# Altium integrated library Lattice CPLD ispLSI 5000VE.IntLib: 66 symbols (part 3 of 7)
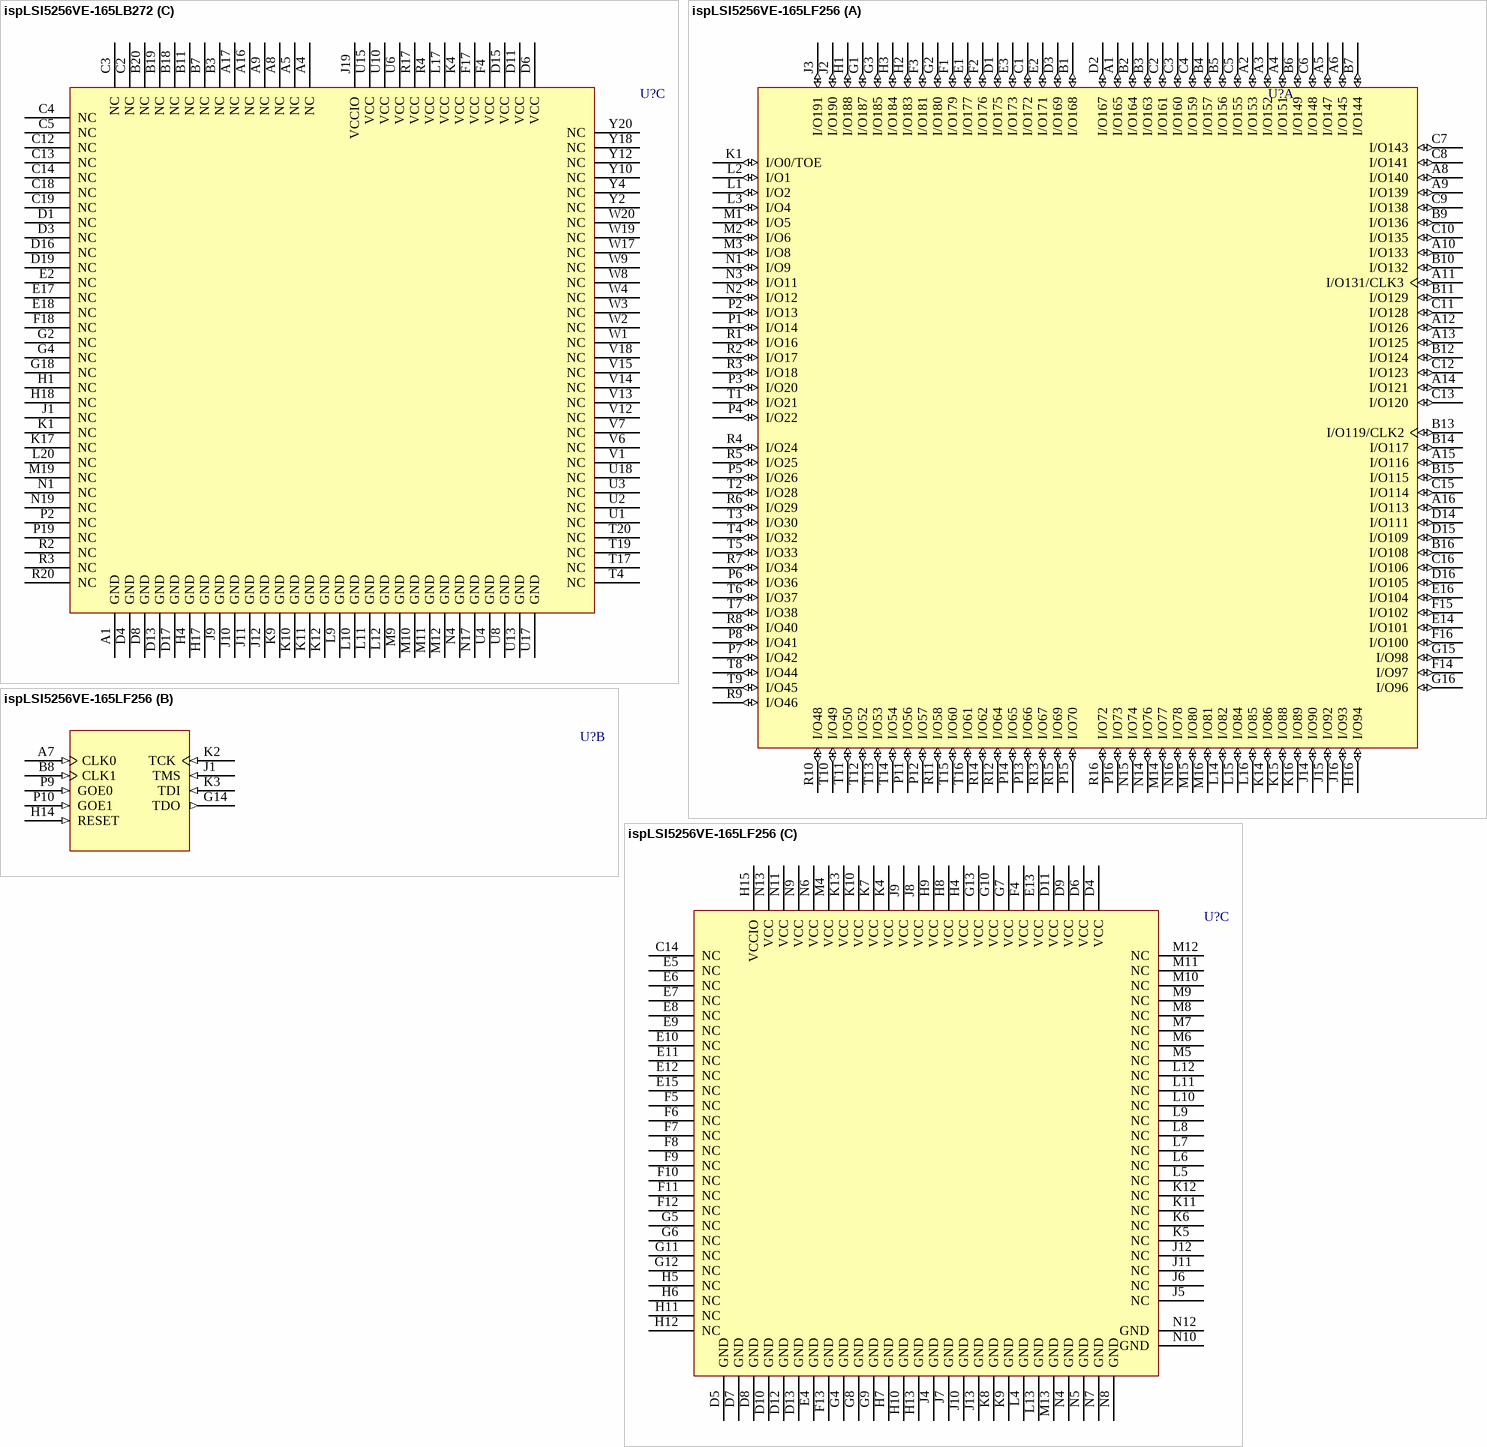
[diagram p59: symbols ispLSI5256VE-165LB272 to ispLSI5256VE-165LF256]

## ispLSI5256VE-165LB272
designator U?
ispLSI 5256VE SuperWIDE High Density PLD with 144 User I/Os, 6.0 ns, 3.3 V, Commercial Grade; Published: 17-Sep-2003; LatestRevisionDate: 13-Apr-2006; LatestRevisionNote: IPC-7351 Footprint Added.; DatasheetVersion: 5256ve_10, Jan-2002; PackageVersion: pkg_32, Aug-2005; PackageReference: BGA272; Publisher: Altium Limited; PackageDescription: 272-Ball Ball Grid Array (BGA272); ComponentLink1Description: Manufacturer Link; ComponentLink1URL: http://www.latticesemi.com/products/cpld/5000/5000VE/index.cfm; ComponentLink2Description: Datasheet; ComponentLink2URL: http://www.latticesemi.com/account/_download.cfm?AMID=815; ComponentLink3Description: Lattice Login; ComponentLink3URL: http://www.latticesemi.com/account/login.cfm
footprint BGA272 (BGA, 272-Leads, Body 27x27mm, Pitch 1.27mm)
3D model 5256VE-BGA272 (272-Ball Ball Grid Array (BGA272))
part A pins: A2 I/O164 (io), A3 I/O160 (io), A6 I/O151 (io), A7 I/O149 (io), A10 I/O140 (io), A11 I/O139 (io), A12 I/O136 (io), A13 I/O132 (io), A14 I/O129 (io), A15 I/O126 (io), A18 I/O119/CLK2 (io), A19 I/O115 (io), A20 I/O114 (io), B1 I/O165 (io), B2 I/O163 (io), B4 I/O159 (io), B5 I/O157 (io), B6 I/O153 (io), B8 I/O147 (io), B9 I/O143 (io), B10 I/O141 (io), B12 I/O135 (io), B13 I/O131/CLK3 (io), B14 I/O128 (io), B15 I/O125 (io), B16 I/O121 (io), B17 I/O116 (io), C1 I/O169 (io), C6 I/O156 (io), C7 I/O152 (io), C8 I/O148 (io), C9 I/O144 (io), C11 I/O138 (io), C15 I/O123 (io), C16 I/O120 (io), C17 I/O117 (io), C20 I/O111 (io), D2 I/O167 (io), D5 I/O161 (io), D7 I/O155 (io), D9 I/O145 (io), D12 I/O133 (io), D14 I/O124 (io), D18 I/O113 (io), D20 I/O109 (io), E1 I/O172 (io), E3 I/O171 (io), E4 I/O168 (io), E19 I/O108 (io), E20 I/O105 (io), F1 I/O176 (io), F2 I/O175 (io), F3 I/O173 (io), F19 I/O104 (io), F20 I/O102 (io), G1 I/O179 (io), G3 I/O177 (io), G17 I/O106 (io), G19 I/O101 (io), G20 I/O100 (io), H2 I/O181 (io), H3 I/O180 (io), H19 I/O98 (io), H20 I/O97 (io), J2 I/O185 (io), J3 I/O184 (io), J4 I/O183 (io), J17 I/O96 (io), K2 I/O187 (io), K3 I/O188 (io), K18 I/O94 (io), K19 I/O93 (io), K20 I/O92 (io), L1 I/O190 (io), L2 I/O191 (io), L18 I/O90 (io), L19 I/O89 (io), M2 I/O0/TOE (io), M3 I/O1 (io), M4 I/O2 (io), M17 I/O85 (io), M18 I/O86 (io), M20 I/O88 (io), N2 I/O4 (io), N3 I/O5 (io), N18 I/O82 (io), N20 I/O84 (io), P1 I/O6 (io), P3 I/O9 (io), P4 I/O12 (io), P17 I/O77 (io), P18 I/O80 (io), P20 I/O81 (io), R1 I/O8 (io), R18 I/O76 (io), R19 I/O78 (io), T1 I/O11 (io), T2 I/O13 (io), T3 I/O14 (io), T18 I/O74 (io), U5 I/O21 (io), U7 I/O28 (io), U9 I/O37 (io), U12 I/O48 (io), U14 I/O58 (io), U16 I/O64 (io), U19 I/O70 (io), U20 I/O73 (io), V2 I/O16 (io), V3 I/O17 (io), V4 I/O20 (io), V5 I/O24 (io), V8 I/O34 (io), V9 I/O38 (io), V10 I/O42 (io), V16 I/O62 (io), V17 I/O65 (io), V19 I/O69 (io), V20 I/O72 (io), W5 I/O25 (io), W6 I/O29 (io), W7 I/O32 (io), W10 I/O41 (io), W11 I/O45 (io), W12 I/O46 (io), W13 I/O50 (io), W14 I/O53 (io), W15 I/O56 (io), W16 I/O60 (io), W18 I/O66 (io), Y1 I/O18 (io), Y3 I/O22 (io), Y5 I/O26 (io), Y6 I/O30 (io), Y7 I/O33 (io), Y8 I/O36 (io), Y9 I/O40 (io), Y11 I/O44 (io), Y13 I/O49 (io), Y14 I/O52 (io), Y15 I/O54 (io), Y16 I/O57 (io), Y17 I/O61 (io), Y19 I/O67 (io)
part B pins: C10 CLK0 (in), D10 CLK1 (in), J18 RESET (in), J20 TDO (out), L3 TMS (in), L4 TCK (in), M1 TDI (in), U11 GOE1 (in), V11 GOE0 (in)
part C pins: A1 GND (power), A4 NC, A5 NC, A8 NC, A9 NC, A16 NC, A17 NC, B3 NC, B7 NC, B11 NC, B18 NC, B19 NC, B20 NC, C2 NC, C3 NC, C4 NC, C5 NC, C12 NC, C13 NC, C14 NC, C18 NC, C19 NC, D1 NC, D3 NC, D4 GND (power), D6 VCC (power), D8 GND (power), D11 VCC (power), D13 GND (power), D15 VCC (power), D16 NC, D17 GND (power), D19 NC, E2 NC, E17 NC, E18 NC, F4 VCC (power), F17 VCC (power), F18 NC, G2 NC, G4 NC, G18 NC, H1 NC, H4 GND (power), H17 GND (power), H18 NC, J1 NC, J9 GND (power), J10 GND (power), J11 GND (power), J12 GND (power), J19 VCCIO (power), K1 NC, K4 VCC (power), K9 GND (power), K10 GND (power), K11 GND (power), K12 GND (power), K17 NC, L9 GND (power), L10 GND (power), L11 GND (power), L12 GND (power), L17 VCC (power), L20 NC, M9 GND (power), M10 GND (power), M11 GND (power), M12 GND (power), M19 NC, N1 NC, N4 GND (power), N17 GND (power), N19 NC, P2 NC, P19 NC, R2 NC, R3 NC, R4 VCC (power), R17 VCC (power), R20 NC, T4 NC, T17 NC, T19 NC, T20 NC, U1 NC, U2 NC, U3 NC, U4 GND (power), U6 VCC (power), U8 GND (power), U10 VCC (power), U13 GND (power), U15 VCC (power), U17 GND (power), U18 NC, V1 NC, V6 NC, V7 NC, V12 NC, V13 NC, V14 NC, V15 NC, V18 NC, W1 NC, W2 NC, W3 NC, W4 NC, W8 NC, W9 NC, W17 NC, W19 NC, W20 NC, Y2 NC, Y4 NC, Y10 NC, Y12 NC, Y18 NC, Y20 NC

## ispLSI5256VE-165LF256
designator U?
ispLSI 5256VE SuperWIDE High Density PLD with 144 User I/Os, 6.0 ns, 3.3 V, Commercial Grade; Published: 17-Sep-2003; LatestRevisionDate: 13-Apr-2006; LatestRevisionNote: IPC-7351 Footprint Added.; DatasheetVersion: 5256ve_10, Jan-2002; PackageVersion: pkg_32, Aug-2005; PackageReference: fpBGA256; Publisher: Altium Limited; PackageDescription: 256-Ball Fine Pitch Ball Grid Array (fpBGA256); Code_IPC: BGA100P16X16-256; ComponentLink1Description: Manufacturer Link; ComponentLink1URL: http://www.latticesemi.com/products/cpld/5000/5000VE/index.cfm; ComponentLink2Description: Datasheet; ComponentLink2URL: http://www.latticesemi.com/account/_download.cfm?AMID=815; ComponentLink3Description: Lattice Login; ComponentLink3URL: http://www.latticesemi.com/account/login.cfm
footprint fpBGA256 (BGA, 256-Leads, Body 17x17mm, Pitch 1mm)
3D model 5256VE-fpBGA256 (256-Ball Fine Pitch Ball Grid Array (fpBGA256))
part A pins: A1 I/O165 (io), A2 I/O153 (io), A3 I/O152 (io), A4 I/O151 (io), A5 I/O147 (io), A6 I/O145 (io), A8 I/O140 (io), A9 I/O139 (io), A10 I/O133 (io), A11 I/O131/CLK3 (io), A12 I/O126 (io), A13 I/O125 (io), A14 I/O121 (io), A15 I/O116 (io), A16 I/O113 (io), B1 I/O168 (io), B2 I/O164 (io), B3 I/O163 (io), B4 I/O157 (io), B5 I/O156 (io), B6 I/O149 (io), B7 I/O144 (io), B9 I/O136 (io), B10 I/O132 (io), B11 I/O129 (io), B12 I/O124 (io), B13 I/O119/CLK2 (io), B14 I/O117 (io), B15 I/O115 (io), B16 I/O108 (io), C1 I/O172 (io), C2 I/O161 (io), C3 I/O160 (io), C4 I/O159 (io), C5 I/O155 (io), C6 I/O148 (io), C7 I/O143 (io), C8 I/O141 (io), C9 I/O138 (io), C10 I/O135 (io), C11 I/O128 (io), C12 I/O123 (io), C13 I/O120 (io), C15 I/O114 (io), C16 I/O106 (io), D1 I/O175 (io), D2 I/O167 (io), D3 I/O169 (io), D14 I/O111 (io), D15 I/O109 (io), D16 I/O105 (io), E1 I/O177 (io), E2 I/O171 (io), E3 I/O173 (io), E14 I/O101 (io), E16 I/O104 (io), F1 I/O179 (io), F2 I/O176 (io), F3 I/O181 (io), F14 I/O97 (io), F15 I/O102 (io), F16 I/O100 (io), G1 I/O187 (io), G2 I/O180 (io), G3 I/O185 (io), G15 I/O98 (io), G16 I/O96 (io), H1 I/O188 (io), H2 I/O183 (io), H3 I/O184 (io), H16 I/O94 (io), J2 I/O190 (io), J3 I/O191 (io), J14 I/O90 (io), J15 I/O92 (io), J16 I/O93 (io), K1 I/O0/TOE (io), K14 I/O86 (io), K15 I/O88 (io), K16 I/O89 (io), L1 I/O2 (io), L2 I/O1 (io), L3 I/O4 (io), L14 I/O82 (io), L15 I/O84 (io), L16 I/O85 (io), M1 I/O5 (io), M2 I/O6 (io), M3 I/O8 (io), M14 I/O77 (io), M15 I/O80 (io), M16 I/O81 (io), N1 I/O9 (io), N2 I/O12 (io), N3 I/O11 (io), N14 I/O76 (io), N15 I/O74 (io), N16 I/O78 (io), P1 I/O14 (io), P2 I/O13 (io), P3 I/O20 (io), P4 I/O22 (io), P5 I/O26 (io), P6 I/O36 (io), P7 I/O42 (io), P8 I/O41 (io), P11 I/O56 (io), P12 I/O57 (io), P13 I/O66 (io), P14 I/O65 (io), P15 I/O70 (io), P16 I/O73 (io), R1 I/O16 (io), R2 I/O17 (io), R3 I/O18 (io), R4 I/O24 (io), R5 I/O25 (io), R6 I/O29 (io), R7 I/O34 (io), R8 I/O40 (io), R9 I/O46 (io), R10 I/O48 (io), R11 I/O58 (io), R12 I/O64 (io), R13 I/O67 (io), R14 I/O62 (io), R15 I/O69 (io), R16 I/O72 (io), T1 I/O21 (io), T2 I/O28 (io), T3 I/O30 (io), T4 I/O32 (io), T5 I/O33 (io), T6 I/O37 (io), T7 I/O38 (io), T8 I/O44 (io), T9 I/O45 (io), T10 I/O49 (io), T11 I/O50 (io), T12 I/O52 (io), T13 I/O53 (io), T14 I/O54 (io), T15 I/O60 (io), T16 I/O61 (io)
part B pins: A7 CLK0 (in), B8 CLK1 (in), G14 TDO (out), H14 RESET (in), J1 TMS (in), K2 TCK (in), K3 TDI (in), P9 GOE0 (in), P10 GOE1 (in)
part C pins: C14 NC, D4 VCC (power), D5 GND (power), D6 VCC (power), D7 GND (power), D8 GND (power), D9 VCC (power), D10 GND (power), D11 VCC (power), D12 GND (power), D13 GND (power), E4 GND (power), E5 NC, E6 NC, E7 NC, E8 NC, E9 NC, E10 NC, E11 NC, E12 NC, E13 VCC (power), E15 NC, F4 VCC (power), F5 NC, F6 NC, F7 NC, F8 NC, F9 NC, F10 NC, F11 NC, F12 NC, F13 GND (power), G4 GND (power), G5 NC, G6 NC, G7 VCC (power), G8 GND (power), G9 GND (power), G10 VCC (power), G11 NC, G12 NC, G13 VCC (power), H4 VCC (power), H5 NC, H6 NC, H7 GND (power), H8 VCC (power), H9 VCC (power), H10 GND (power), H11 NC, H12 NC, H13 GND (power), H15 VCCIO (power), J4 GND (power), J5 NC, J6 NC, J7 GND (power), J8 VCC (power), J9 VCC (power), J10 GND (power), J11 NC, J12 NC, J13 GND (power), K4 VCC (power), K5 NC, K6 NC, K7 VCC (power), K8 GND (power), K9 GND (power), K10 VCC (power), K11 NC, K12 NC, K13 VCC (power), L4 GND (power), L5 NC, L6 NC, L7 NC, L8 NC, L9 NC, L10 NC, L11 NC, L12 NC, L13 GND (power), M4 VCC (power), M5 NC, M6 NC, M7 NC, M8 NC, M9 NC, M10 NC, M11 NC, M12 NC, M13 GND (power), N4 GND (power), N5 GND (power), N6 VCC (power), N7 GND (power), N8 GND (power), N9 VCC (power), N10 GND (power), N11 VCC (power), N12 GND (power), N13 VCC (power)

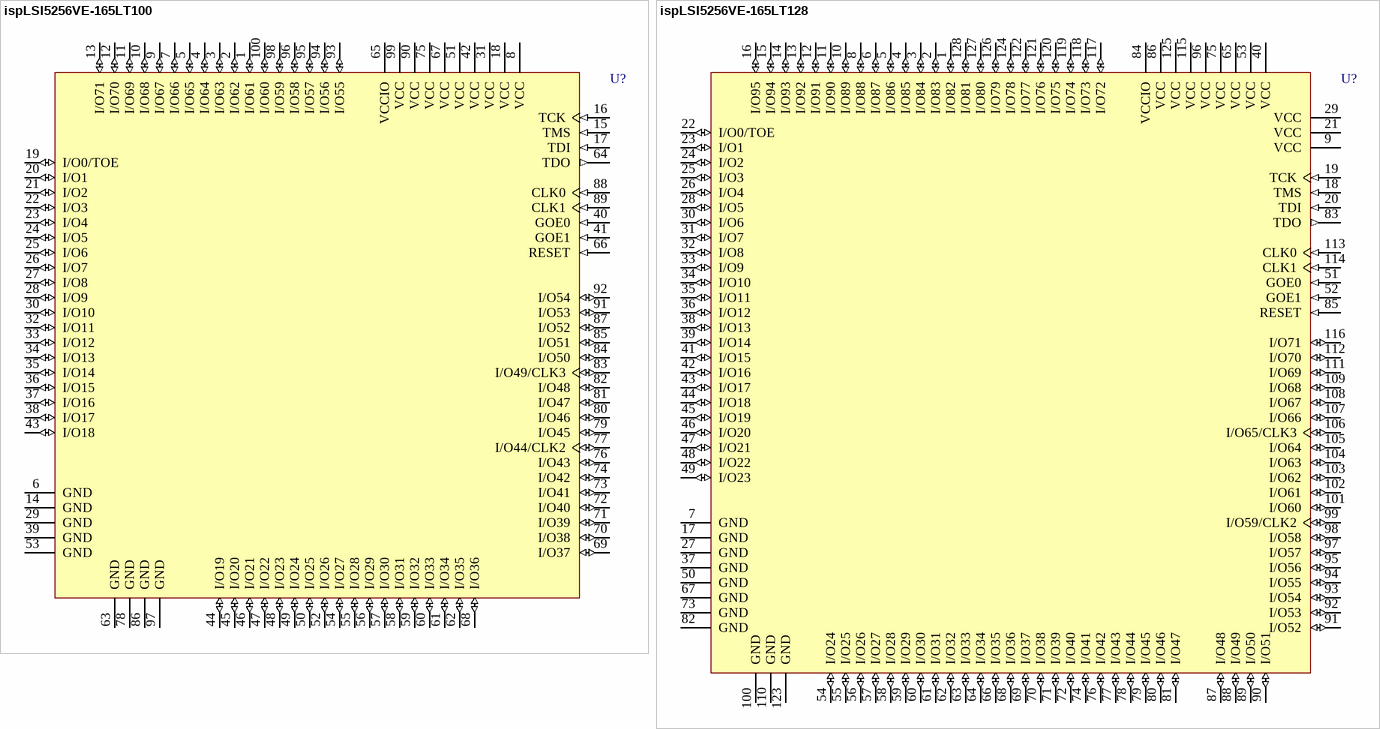
[diagram p13: symbols ispLSI5256VE-165LT100 to ispLSI5256VE-165LT128]

## ispLSI5256VE-165LT100
designator U?
ispLSI 5256VE SuperWIDE High Density PLD with 72 User I/Os, 6.0 ns, 3.3 V, Commercial Grade; Published: 17-Sep-2003; LatestRevisionDate: 13-Apr-2006; LatestRevisionNote: IPC-7351 Footprint Added.; DatasheetVersion: 5256ve_10, Jan-2002; PackageVersion: pkg_32, Aug-2005; PackageReference: TQFP100; Publisher: Altium Limited; PackageDescription: 100-Pin Thin Quad Flat Pack (TQFP100); Code_JEDEC: MS-026-BED; ComponentLink1Description: Manufacturer Link; ComponentLink1URL: http://www.latticesemi.com/products/cpld/5000/5000VE/index.cfm; ComponentLink2Description: Datasheet; ComponentLink2URL: http://www.latticesemi.com/account/_download.cfm?AMID=815; ComponentLink3Description: Lattice Login; ComponentLink3URL: http://www.latticesemi.com/account/login.cfm
footprint TQFP100_N (Thin QFP, 100-Leads, Body 14x14mm, Pitch 0.5mm, IPC Medium Density)
footprint TQFP100_L (Thin QFP, 100-Leads, Body 14x14mm, Pitch 0.5mm, IPC High Density)
footprint TQFP100_M (Thin QFP, 100-Leads, Body 14x14mm, Pitch 0.5mm, IPC Low Density)
3D model 5256VE-TQFP100 (100-Pin Thin Quad Flat Pack (TQFP100))
pins: 1 I/O61 (io), 2 I/O62 (io), 3 I/O63 (io), 4 I/O64 (io), 5 I/O65 (io), 6 GND (power), 7 I/O66 (io), 8 VCC (power), 9 I/O67 (io), 10 I/O68 (io), 11 I/O69 (io), 12 I/O70 (io), 13 I/O71 (io), 14 GND (power), 15 TMS (in), 16 TCK (in), 17 TDI (in), 18 VCC (power), 19 I/O0/TOE (io), 20 I/O1 (io), 21 I/O2 (io), 22 I/O3 (io), 23 I/O4 (io), 24 I/O5 (io), 25 I/O6 (io), 26 I/O7 (io), 27 I/O8 (io), 28 I/O9 (io), 29 GND (power), 30 I/O10 (io), 31 VCC (power), 32 I/O11 (io), 33 I/O12 (io), 34 I/O13 (io), 35 I/O14 (io), 36 I/O15 (io), 37 I/O16 (io), 38 I/O17 (io), 39 GND (power), 40 GOE0 (in), 41 GOE1 (in), 42 VCC (power), 43 I/O18 (io), 44 I/O19 (io), 45 I/O20 (io), 46 I/O21 (io), 47 I/O22 (io), 48 I/O23 (io), 49 I/O24 (io), 50 I/O25 (io), 51 VCC (power), 52 I/O26 (io), 53 GND (power), 54 I/O27 (io), 55 I/O28 (io), 56 I/O29 (io), 57 I/O30 (io), 58 I/O31 (io), 59 I/O32 (io), 60 I/O33 (io), 61 I/O34 (io), 62 I/O35 (io), 63 GND (power), 64 TDO (out), 65 VCCIO (power), 66 RESET (in), 67 VCC (power), 68 I/O36 (io), 69 I/O37 (io), 70 I/O38 (io), 71 I/O39 (io), 72 I/O40 (io), 73 I/O41 (io), 74 I/O42 (io), 75 VCC (power), 76 I/O43 (io), 77 I/O44/CLK2 (io), 78 GND (power), 79 I/O45 (io), 80 I/O46 (io), 81 I/O47 (io), 82 I/O48 (io), 83 I/O49/CLK3 (io), 84 I/O50 (io), 85 I/O51 (io), 86 GND (power), 87 I/O52 (io), 88 CLK0 (in), 89 CLK1 (in), 90 VCC (power), 91 I/O53 (io), 92 I/O54 (io), 93 I/O55 (io), 94 I/O56 (io), 95 I/O57 (io), 96 I/O58 (io), 97 GND (power), 98 I/O59 (io), 99 VCC (power), 100 I/O60 (io)

## ispLSI5256VE-165LT128
designator U?
ispLSI 5256VE SuperWIDE High Density PLD with 96 User I/Os, 6.0 ns, 3.3 V, Commercial Grade; Published: 17-Sep-2003; LatestRevisionDate: 13-Apr-2006; LatestRevisionNote: IPC-7351 Footprint Added.; DatasheetVersion: 5256ve_10, Jan-2002; PackageVersion: Aug-2005; PackageReference: TQFP128; Publisher: Altium Limited; PackageDescription: 128-Pin Thin Quad Flat Pack 0.4 mm Pitch; ComponentLink1Description: Manufacturer Link; ComponentLink1URL: http://www.latticesemi.com/products/cpld/5000/5000VE/index.cfm; ComponentLink2Description: Datasheet; ComponentLink2URL: http://www.latticesemi.com/account/_download.cfm?AMID=815; ComponentLink3Description: Lattice Login; ComponentLink3URL: http://www.latticesemi.com/account/login.cfm
footprint TQFP128_N (Thin QFP, 128-Leads, Body 14x14mm, Pitch 0.4mm, IPC Medium Density)
footprint TQFP128_L (Thin QFP, 128-Leads, Body 14x14mm, Pitch 0.4mm, IPC High Density)
footprint TQFP128_M (Thin QFP, 128-Leads, Body 14x14mm, Pitch 0.4mm, IPC Low Density)
3D model 5256VE-TQFP128 (128-Pin Thin Quad Flat Pack 0.4 mm Pitch)
pins: 1 I/O82 (io), 2 I/O83 (io), 3 I/O84 (io), 4 I/O85 (io), 5 I/O86 (io), 6 I/O87 (io), 7 GND (power), 8 I/O88 (io), 9 VCC (power), 10 I/O89 (io), 11 I/O90 (io), 12 I/O91 (io), 13 I/O92 (io), 14 I/O93 (io), 15 I/O94 (io), 16 I/O95 (io), 17 GND (power), 18 TMS (in), 19 TCK (in), 20 TDI (in), 21 VCC (power), 22 I/O0/TOE (io), 23 I/O1 (io), 24 I/O2 (io), 25 I/O3 (io), 26 I/O4 (io), 27 GND (power), 28 I/O5 (io), 29 VCC (power), 30 I/O6 (io), 31 I/O7 (io), 32 I/O8 (io), 33 I/O9 (io), 34 I/O10 (io), 35 I/O11 (io), 36 I/O12 (io), 37 GND (power), 38 I/O13 (io), 39 I/O14 (io), 40 VCC (power), 41 I/O15 (io), 42 I/O16 (io), 43 I/O17 (io), 44 I/O18 (io), 45 I/O19 (io), 46 I/O20 (io), 47 I/O21 (io), 48 I/O22 (io), 49 I/O23 (io), 50 GND (power), 51 GOE0 (in), 52 GOE1 (in), 53 VCC (power), 54 I/O24 (io), 55 I/O25 (io), 56 I/O26 (io), 57 I/O27 (io), 58 I/O28 (io), 59 I/O29 (io), 60 I/O30 (io), 61 I/O31 (io), 62 I/O32 (io), 63 I/O33 (io), 64 I/O34 (io), 65 VCC (power), 66 I/O35 (io), 67 GND (power), 68 I/O36 (io), 69 I/O37 (io), 70 I/O38 (io), 71 I/O39 (io), 72 I/O40 (io), 73 GND (power), 74 I/O41 (io), 75 VCC (power), 76 I/O42 (io), 77 I/O43 (io), 78 I/O44 (io), 79 I/O45 (io), 80 I/O46 (io), 81 I/O47 (io), 82 GND (power), 83 TDO (out), 84 VCCIO (power), 85 RESET (in), 86 VCC (power), 87 I/O48 (io), 88 I/O49 (io), 89 I/O50 (io), 90 I/O51 (io), 91 I/O52 (io), 92 I/O53 (io), 93 I/O54 (io), 94 I/O55 (io), 95 I/O56 (io), 96 VCC (power), 97 I/O57 (io), 98 I/O58 (io), 99 I/O59/CLK2 (io), 100 GND (power), 101 I/O60 (io), 102 I/O61 (io), 103 I/O62 (io), 104 I/O63 (io), 105 I/O64 (io), 106 I/O65/CLK3 (io), 107 I/O66 (io), 108 I/O67 (io), 109 I/O68 (io), 110 GND (power), 111 I/O69 (io), 112 I/O70 (io), 113 CLK0 (in), 114 CLK1 (in), 115 VCC (power), 116 I/O71 (io), 117 I/O72 (io), 118 I/O73 (io), 119 I/O74 (io), 120 I/O75 (io), 121 I/O76 (io), 122 I/O77 (io), 123 GND (power), 124 I/O78 (io), 125 VCC (power), 126 I/O79 (io), 127 I/O80 (io), 128 I/O81 (io)

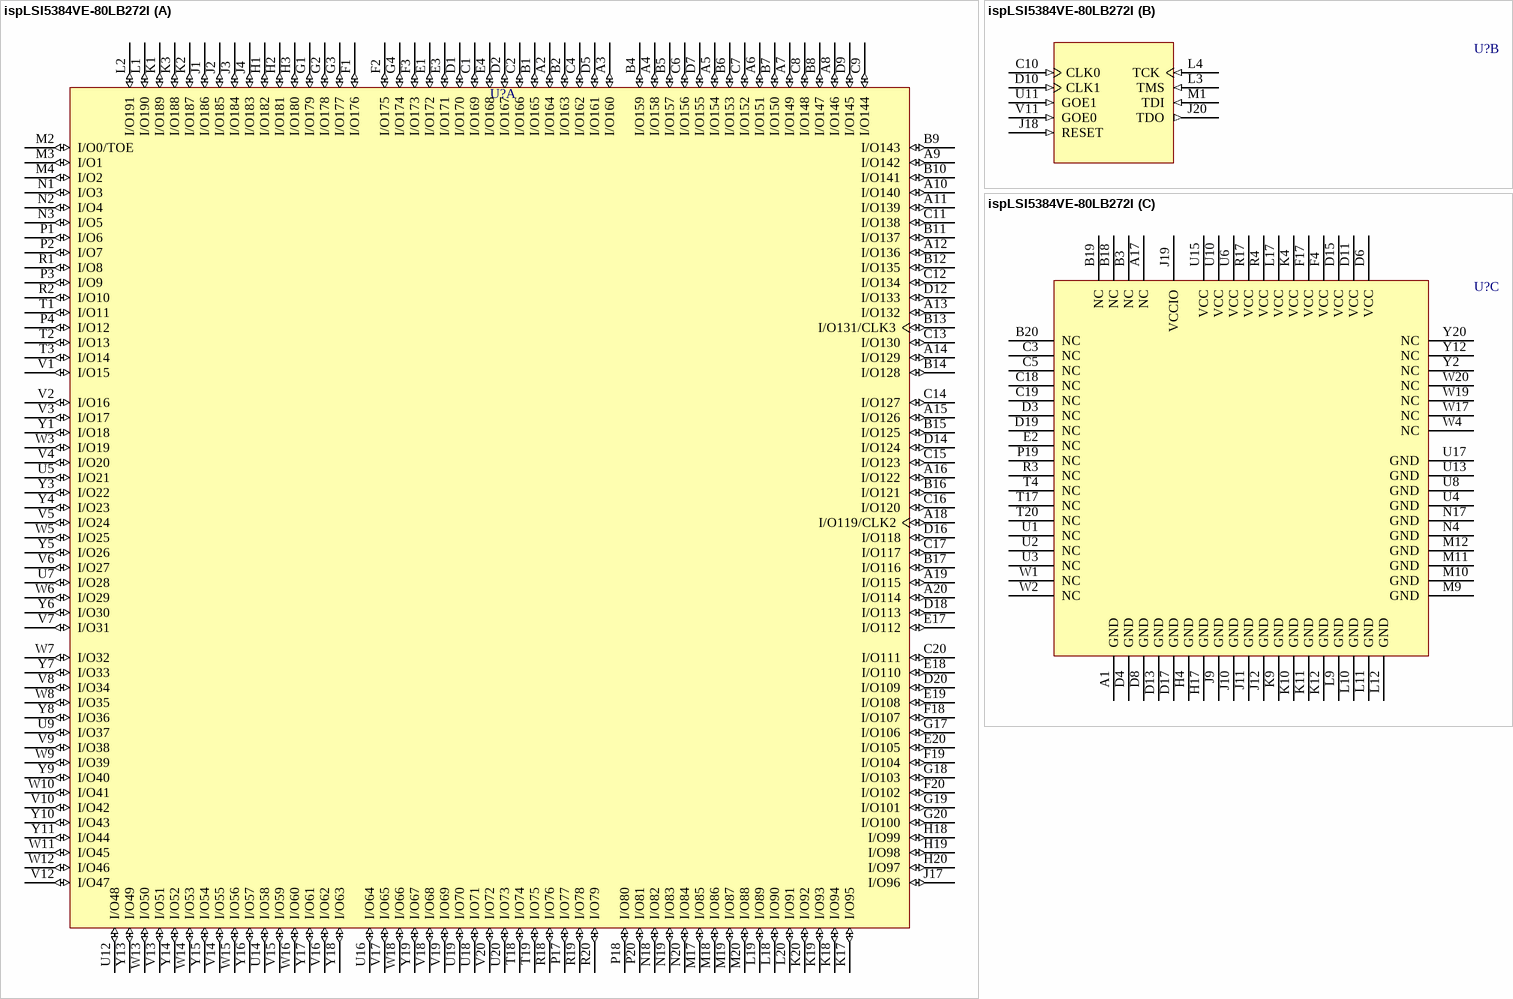
[diagram p14: symbol ispLSI5384VE-80LB272I]

## ispLSI5384VE-80LB272I
designator U?
ispLSI 5384VE SuperWIDE High Density PLD with 144 User I/Os, 12 ns, 3.3 V, Commercial Grade; Published: 17-Sep-2003; LatestRevisionDate: 13-Apr-2006; LatestRevisionNote: IPC-7351 Footprint Added.; DatasheetVersion: 5384ve_05, Jan-2002; PackageVersion: pkg_32, Aug-2005; PackageReference: BGA272; Publisher: Altium Limited; PackageDescription: 272-Ball Ball Grid Array (BGA272); ComponentLink1Description: Manufacturer Link; ComponentLink1URL: http://www.latticesemi.com/products/cpld/5000/5000VE/index.cfm; ComponentLink2Description: Datasheet; ComponentLink2URL: http://www.latticesemi.com/account/_download.cfm?AMID=816; ComponentLink3Description: Lattice Login; ComponentLink3URL: http://www.latticesemi.com/account/login.cfm
footprint BGA272 (BGA, 272-Leads, Body 27x27mm, Pitch 1.27mm)
3D model 5384VE-BGA272 (272-Ball Ball Grid Array (BGA272))
part A pins: A2 I/O164 (io), A3 I/O160 (io), A4 I/O158 (io), A5 I/O154 (io), A6 I/O151 (io), A7 I/O149 (io), A8 I/O146 (io), A9 I/O142 (io), A10 I/O140 (io), A11 I/O139 (io), A12 I/O136 (io), A13 I/O132 (io), A14 I/O129 (io), A15 I/O126 (io), A16 I/O122 (io), A18 I/O119/CLK2 (io), A19 I/O115 (io), A20 I/O114 (io), B1 I/O165 (io), B2 I/O163 (io), B4 I/O159 (io), B5 I/O157 (io), B6 I/O153 (io), B7 I/O150 (io), B8 I/O147 (io), B9 I/O143 (io), B10 I/O141 (io), B11 I/O137 (io), B12 I/O135 (io), B13 I/O131/CLK3 (io), B14 I/O128 (io), B15 I/O125 (io), B16 I/O121 (io), B17 I/O116 (io), C1 I/O169 (io), C2 I/O166 (io), C4 I/O162 (io), C6 I/O156 (io), C7 I/O152 (io), C8 I/O148 (io), C9 I/O144 (io), C11 I/O138 (io), C12 I/O134 (io), C13 I/O130 (io), C14 I/O127 (io), C15 I/O123 (io), C16 I/O120 (io), C17 I/O117 (io), C20 I/O111 (io), D1 I/O170 (io), D2 I/O167 (io), D5 I/O161 (io), D7 I/O155 (io), D9 I/O145 (io), D12 I/O133 (io), D14 I/O124 (io), D16 I/O118 (io), D18 I/O113 (io), D20 I/O109 (io), E1 I/O172 (io), E3 I/O171 (io), E4 I/O168 (io), E17 I/O112 (io), E18 I/O110 (io), E19 I/O108 (io), E20 I/O105 (io), F1 I/O176 (io), F2 I/O175 (io), F3 I/O173 (io), F18 I/O107 (io), F19 I/O104 (io), F20 I/O102 (io), G1 I/O179 (io), G2 I/O178 (io), G3 I/O177 (io), G4 I/O174 (io), G17 I/O106 (io), G18 I/O103 (io), G19 I/O101 (io), G20 I/O100 (io), H1 I/O182 (io), H2 I/O181 (io), H3 I/O180 (io), H18 I/O99 (io), H19 I/O98 (io), H20 I/O97 (io), J1 I/O186 (io), J2 I/O185 (io), J3 I/O184 (io), J4 I/O183 (io), J17 I/O96 (io), K1 I/O189 (io), K2 I/O187 (io), K3 I/O188 (io), K17 I/O95 (io), K18 I/O94 (io), K19 I/O93 (io), K20 I/O92 (io), L1 I/O190 (io), L2 I/O191 (io), L18 I/O90 (io), L19 I/O89 (io), L20 I/O91 (io), M2 I/O0/TOE (io), M3 I/O1 (io), M4 I/O2 (io), M17 I/O85 (io), M18 I/O86 (io), M19 I/O87 (io), M20 I/O88 (io), N1 I/O3 (io), N2 I/O4 (io), N3 I/O5 (io), N18 I/O82 (io), N19 I/O83 (io), N20 I/O84 (io), P1 I/O6 (io), P2 I/O7 (io), P3 I/O9 (io), P4 I/O12 (io), P17 I/O77 (io), P18 I/O80 (io), P20 I/O81 (io), R1 I/O8 (io), R2 I/O10 (io), R18 I/O76 (io), R19 I/O78 (io), R20 I/O79 (io), T1 I/O11 (io), T2 I/O13 (io), T3 I/O14 (io), T18 I/O74 (io), T19 I/O75 (io), U5 I/O21 (io), U7 I/O28 (io), U9 I/O37 (io), U12 I/O48 (io), U14 I/O58 (io), U16 I/O64 (io), U18 I/O71 (io), U19 I/O70 (io), U20 I/O73 (io), V1 I/O15 (io), V2 I/O16 (io), V3 I/O17 (io), V4 I/O20 (io), V5 I/O24 (io), V6 I/O27 (io), V7 I/O31 (io), V8 I/O34 (io), V9 I/O38 (io), V10 I/O42 (io), V12 I/O47 (io), V13 I/O51 (io), V14 I/O55 (io), V15 I/O59 (io), V16 I/O62 (io), V17 I/O65 (io), V18 I/O68 (io), V19 I/O69 (io), V20 I/O72 (io), W3 I/O19 (io), W5 I/O25 (io), W6 I/O29 (io), W7 I/O32 (io), W8 I/O35 (io), W9 I/O39 (io), W10 I/O41 (io), W11 I/O45 (io), W12 I/O46 (io), W13 I/O50 (io), W14 I/O53 (io), W15 I/O56 (io), W16 I/O60 (io), W18 I/O66 (io), Y1 I/O18 (io), Y3 I/O22 (io), Y4 I/O23 (io), Y5 I/O26 (io), Y6 I/O30 (io), Y7 I/O33 (io), Y8 I/O36 (io), Y9 I/O40 (io), Y10 I/O43 (io), Y11 I/O44 (io), Y13 I/O49 (io), Y14 I/O52 (io), Y15 I/O54 (io), Y16 I/O57 (io), Y17 I/O61 (io), Y18 I/O63 (io), Y19 I/O67 (io)
part B pins: C10 CLK0 (in), D10 CLK1 (in), J18 RESET (in), J20 TDO (out), L3 TMS (in), L4 TCK (in), M1 TDI (in), U11 GOE1 (in), V11 GOE0 (in)
part C pins: A1 GND (power), A17 NC, B3 NC, B18 NC, B19 NC, B20 NC, C3 NC, C5 NC, C18 NC, C19 NC, D3 NC, D4 GND (power), D6 VCC (power), D8 GND (power), D11 VCC (power), D13 GND (power), D15 VCC (power), D17 GND (power), D19 NC, E2 NC, F4 VCC (power), F17 VCC (power), H4 GND (power), H17 GND (power), J9 GND (power), J10 GND (power), J11 GND (power), J12 GND (power), J19 VCCIO (power), K4 VCC (power), K9 GND (power), K10 GND (power), K11 GND (power), K12 GND (power), L9 GND (power), L10 GND (power), L11 GND (power), L12 GND (power), L17 VCC (power), M9 GND (power), M10 GND (power), M11 GND (power), M12 GND (power), N4 GND (power), N17 GND (power), P19 NC, R3 NC, R4 VCC (power), R17 VCC (power), T4 NC, T17 NC, T20 NC, U1 NC, U2 NC, U3 NC, U4 GND (power), U6 VCC (power), U8 GND (power), U10 VCC (power), U13 GND (power), U15 VCC (power), U17 GND (power), W1 NC, W2 NC, W4 NC, W17 NC, W19 NC, W20 NC, Y2 NC, Y12 NC, Y20 NC

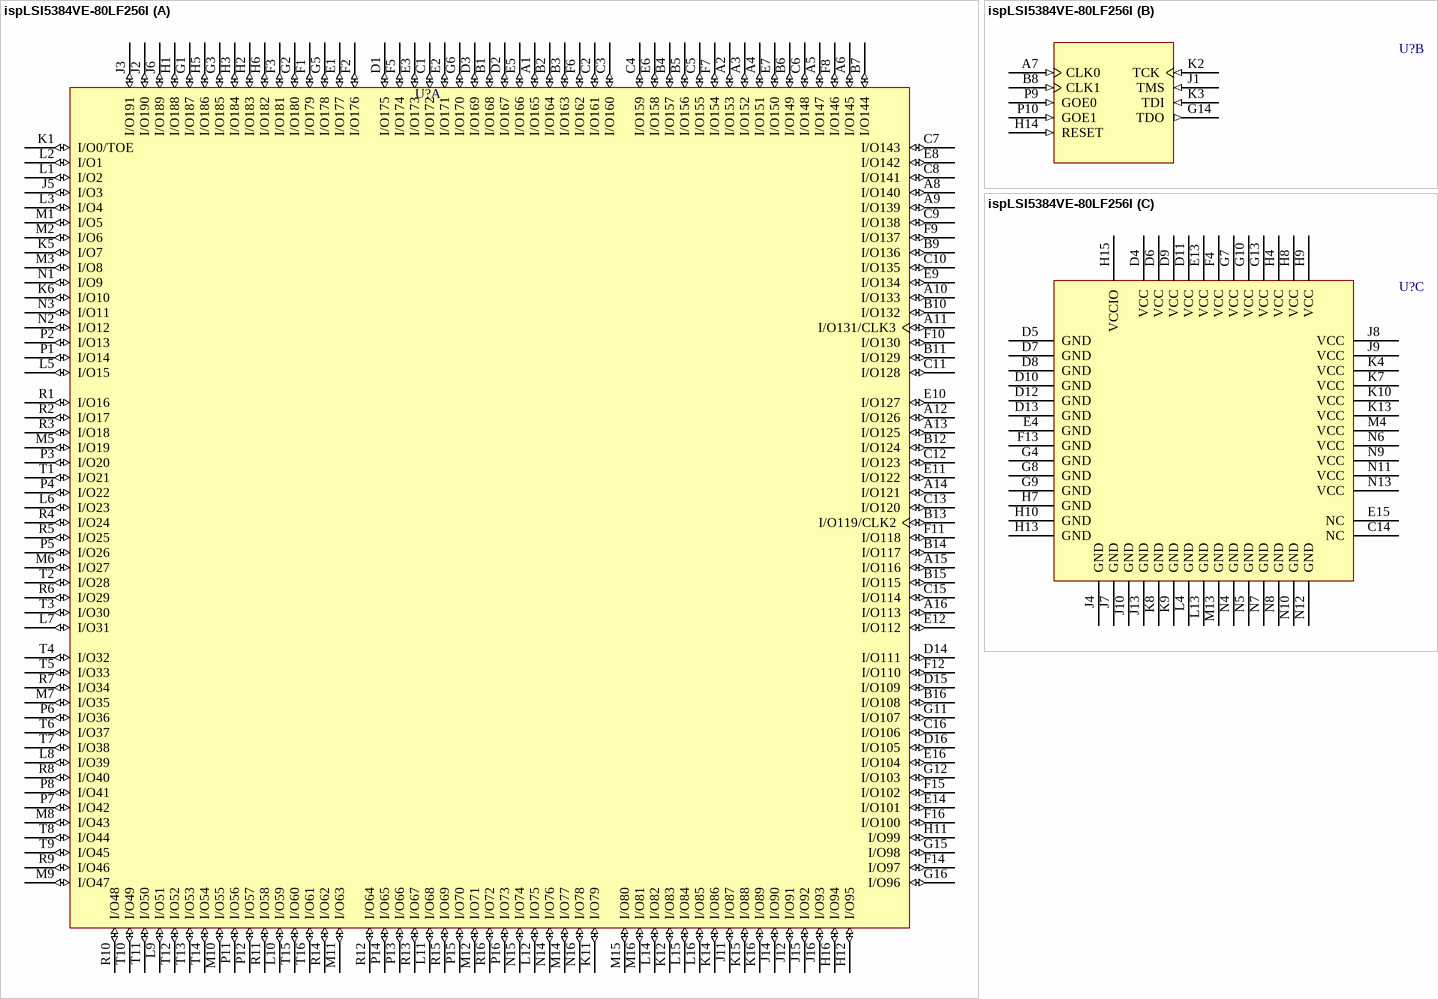
[diagram p15: symbol ispLSI5384VE-80LF256I]

## ispLSI5384VE-80LF256I
designator U?
ispLSI 5384VE SuperWIDE High Density PLD with 192 User I/Os, 12 ns, 3.3 V, Commercial Grade; Published: 17-Sep-2003; LatestRevisionDate: 13-Apr-2006; LatestRevisionNote: IPC-7351 Footprint Added.; DatasheetVersion: 5384ve_05, Jan-2002; PackageVersion: pkg_32, Aug-2005; PackageReference: fpBGA256; Publisher: Altium Limited; PackageDescription: 256-Ball Fine Pitch Ball Grid Array (fpBGA256); Code_IPC: BGA100P16X16-256; ComponentLink1Description: Manufacturer Link; ComponentLink1URL: http://www.latticesemi.com/products/cpld/5000/5000VE/index.cfm; ComponentLink2Description: Datasheet; ComponentLink2URL: http://www.latticesemi.com/account/_download.cfm?AMID=816; ComponentLink3Description: Lattice Login; ComponentLink3URL: http://www.latticesemi.com/account/login.cfm
footprint fpBGA256 (BGA, 256-Leads, Body 17x17mm, Pitch 1mm)
3D model 5384VE-fpBGA256 (256-Ball Fine Pitch Ball Grid Array (fpBGA256))
part A pins: A1 I/O165 (io), A2 I/O153 (io), A3 I/O152 (io), A4 I/O151 (io), A5 I/O147 (io), A6 I/O145 (io), A8 I/O140 (io), A9 I/O139 (io), A10 I/O133 (io), A11 I/O131/CLK3 (io), A12 I/O126 (io), A13 I/O125 (io), A14 I/O121 (io), A15 I/O116 (io), A16 I/O113 (io), B1 I/O168 (io), B2 I/O164 (io), B3 I/O163 (io), B4 I/O157 (io), B5 I/O156 (io), B6 I/O149 (io), B7 I/O144 (io), B9 I/O136 (io), B10 I/O132 (io), B11 I/O129 (io), B12 I/O124 (io), B13 I/O119/CLK2 (io), B14 I/O117 (io), B15 I/O115 (io), B16 I/O108 (io), C1 I/O172 (io), C2 I/O161 (io), C3 I/O160 (io), C4 I/O159 (io), C5 I/O155 (io), C6 I/O148 (io), C7 I/O143 (io), C8 I/O141 (io), C9 I/O138 (io), C10 I/O135 (io), C11 I/O128 (io), C12 I/O123 (io), C13 I/O120 (io), C15 I/O114 (io), C16 I/O106 (io), D1 I/O175 (io), D2 I/O167 (io), D3 I/O169 (io), D14 I/O111 (io), D15 I/O109 (io), D16 I/O105 (io), E1 I/O177 (io), E2 I/O171 (io), E3 I/O173 (io), E5 I/O166 (io), E6 I/O158 (io), E7 I/O150 (io), E8 I/O142 (io), E9 I/O134 (io), E10 I/O127 (io), E11 I/O122 (io), E12 I/O112 (io), E14 I/O101 (io), E16 I/O104 (io), F1 I/O179 (io), F2 I/O176 (io), F3 I/O181 (io), F5 I/O174 (io), F6 I/O162 (io), F7 I/O154 (io), F8 I/O146 (io), F9 I/O137 (io), F10 I/O130 (io), F11 I/O118 (io), F12 I/O110 (io), F14 I/O97 (io), F15 I/O102 (io), F16 I/O100 (io), G1 I/O187 (io), G2 I/O180 (io), G3 I/O185 (io), G5 I/O178 (io), G6 I/O170 (io), G11 I/O107 (io), G12 I/O103 (io), G15 I/O98 (io), G16 I/O96 (io), H1 I/O188 (io), H2 I/O183 (io), H3 I/O184 (io), H5 I/O186 (io), H6 I/O182 (io), H11 I/O99 (io), H12 I/O95 (io), H16 I/O94 (io), J2 I/O190 (io), J3 I/O191 (io), J5 I/O3 (io), J6 I/O189 (io), J11 I/O87 (io), J12 I/O91 (io), J14 I/O90 (io), J15 I/O92 (io), J16 I/O93 (io), K1 I/O0/TOE (io), K5 I/O7 (io), K6 I/O10 (io), K11 I/O79 (io), K12 I/O83 (io), K14 I/O86 (io), K15 I/O88 (io), K16 I/O89 (io), L1 I/O2 (io), L2 I/O1 (io), L3 I/O4 (io), L5 I/O15 (io), L6 I/O23 (io), L7 I/O31 (io), L8 I/O39 (io), L9 I/O51 (io), L10 I/O59 (io), L11 I/O68 (io), L12 I/O75 (io), L14 I/O82 (io), L15 I/O84 (io), L16 I/O85 (io), M1 I/O5 (io), M2 I/O6 (io), M3 I/O8 (io), M5 I/O19 (io), M6 I/O27 (io), M7 I/O35 (io), M8 I/O43 (io), M9 I/O47 (io), M10 I/O55 (io), M11 I/O63 (io), M12 I/O71 (io), M14 I/O77 (io), M15 I/O80 (io), M16 I/O81 (io), N1 I/O9 (io), N2 I/O12 (io), N3 I/O11 (io), N14 I/O76 (io), N15 I/O74 (io), N16 I/O78 (io), P1 I/O14 (io), P2 I/O13 (io), P3 I/O20 (io), P4 I/O22 (io), P5 I/O26 (io), P6 I/O36 (io), P7 I/O42 (io), P8 I/O41 (io), P11 I/O56 (io), P12 I/O57 (io), P13 I/O66 (io), P14 I/O65 (io), P15 I/O70 (io), P16 I/O73 (io), R1 I/O16 (io), R2 I/O17 (io), R3 I/O18 (io), R4 I/O24 (io), R5 I/O25 (io), R6 I/O29 (io), R7 I/O34 (io), R8 I/O40 (io), R9 I/O46 (io), R10 I/O48 (io), R11 I/O58 (io), R12 I/O64 (io), R13 I/O67 (io), R14 I/O62 (io), R15 I/O69 (io), R16 I/O72 (io), T1 I/O21 (io), T2 I/O28 (io), T3 I/O30 (io), T4 I/O32 (io), T5 I/O33 (io), T6 I/O37 (io), T7 I/O38 (io), T8 I/O44 (io), T9 I/O45 (io), T10 I/O49 (io), T11 I/O50 (io), T12 I/O52 (io), T13 I/O53 (io), T14 I/O54 (io), T15 I/O60 (io), T16 I/O61 (io)
part B pins: A7 CLK0 (in), B8 CLK1 (in), G14 TDO (out), H14 RESET (in), J1 TMS (in), K2 TCK (in), K3 TDI (in), P9 GOE0 (in), P10 GOE1 (in)
part C pins: C14 NC, D4 VCC (power), D5 GND (power), D6 VCC (power), D7 GND (power), D8 GND (power), D9 VCC (power), D10 GND (power), D11 VCC (power), D12 GND (power), D13 GND (power), E4 GND (power), E13 VCC (power), E15 NC, F4 VCC (power), F13 GND (power), G4 GND (power), G7 VCC (power), G8 GND (power), G9 GND (power), G10 VCC (power), G13 VCC (power), H4 VCC (power), H7 GND (power), H8 VCC (power), H9 VCC (power), H10 GND (power), H13 GND (power), H15 VCCIO (power), J4 GND (power), J7 GND (power), J8 VCC (power), J9 VCC (power), J10 GND (power), J13 GND (power), K4 VCC (power), K7 VCC (power), K8 GND (power), K9 GND (power), K10 VCC (power), K13 VCC (power), L4 GND (power), L13 GND (power), M4 VCC (power), M13 GND (power), N4 GND (power), N5 GND (power), N6 VCC (power), N7 GND (power), N8 GND (power), N9 VCC (power), N10 GND (power), N11 VCC (power), N12 GND (power), N13 VCC (power)

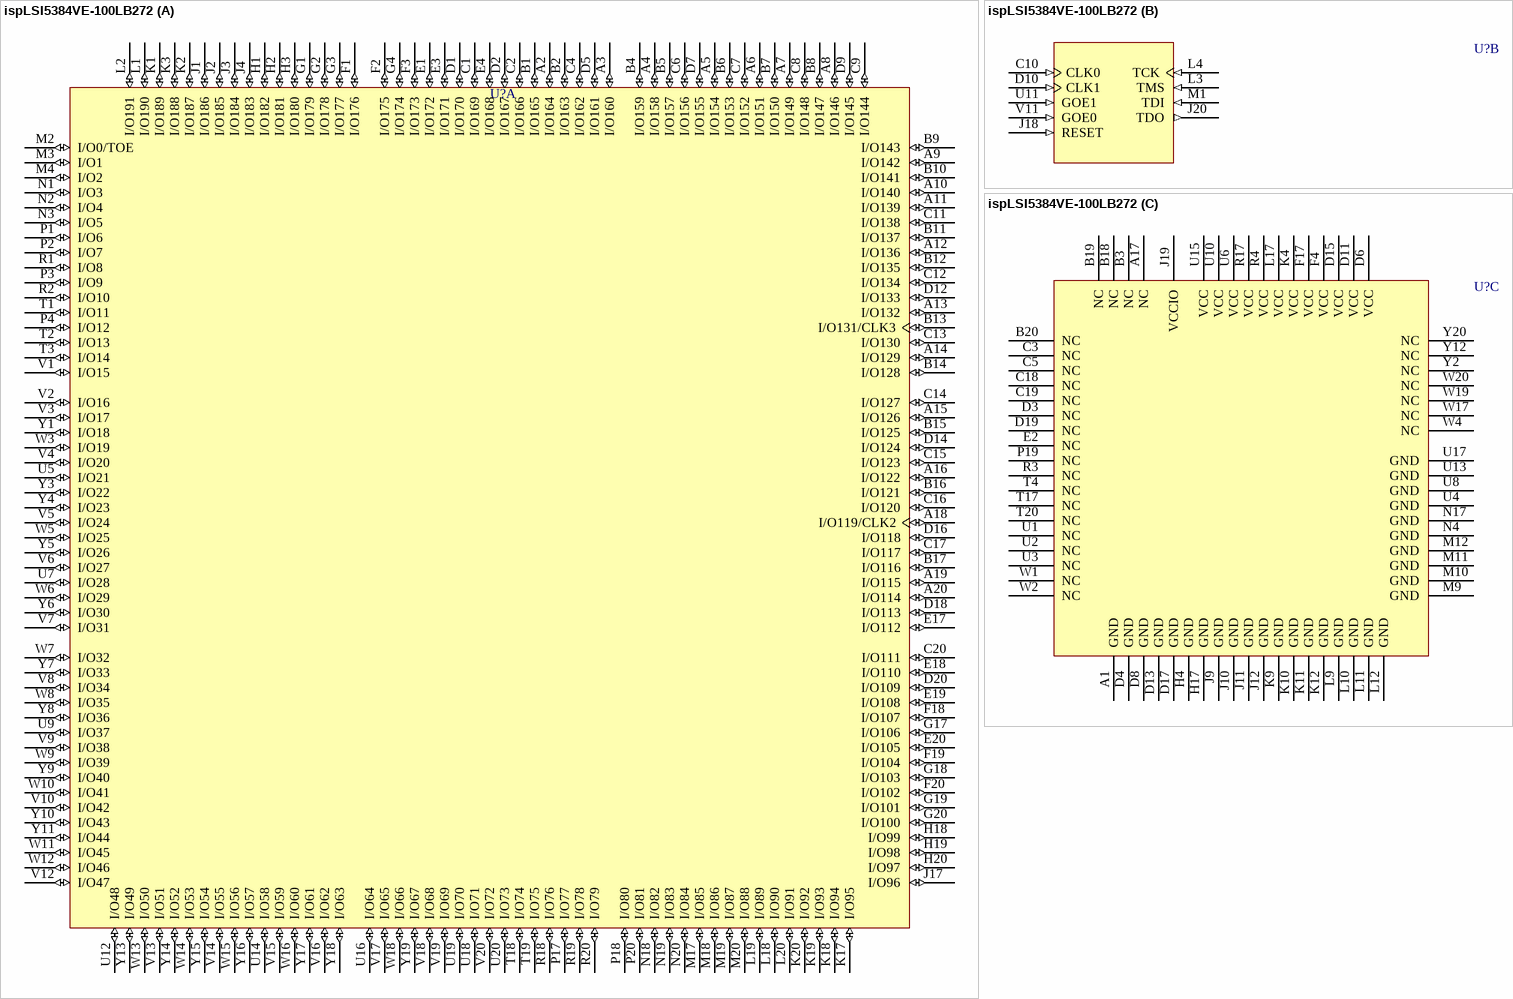
[diagram p16: symbol ispLSI5384VE-100LB272]

## ispLSI5384VE-100LB272
designator U?
ispLSI 5384VE SuperWIDE High Density PLD with 144 User I/Os, 10 ns, 3.3 V, Commercial Grade; Published: 17-Sep-2003; LatestRevisionDate: 13-Apr-2006; LatestRevisionNote: IPC-7351 Footprint Added.; DatasheetVersion: 5384ve_05, Jan-2002; PackageVersion: pkg_32, Aug-2005; PackageReference: BGA272; Publisher: Altium Limited; PackageDescription: 272-Ball Ball Grid Array (BGA272); ComponentLink1Description: Manufacturer Link; ComponentLink1URL: http://www.latticesemi.com/products/cpld/5000/5000VE/index.cfm; ComponentLink2Description: Datasheet; ComponentLink2URL: http://www.latticesemi.com/account/_download.cfm?AMID=816; ComponentLink3Description: Lattice Login; ComponentLink3URL: http://www.latticesemi.com/account/login.cfm
footprint BGA272 (BGA, 272-Leads, Body 27x27mm, Pitch 1.27mm)
3D model 5384VE-BGA272 (272-Ball Ball Grid Array (BGA272))
part A pins: A2 I/O164 (io), A3 I/O160 (io), A4 I/O158 (io), A5 I/O154 (io), A6 I/O151 (io), A7 I/O149 (io), A8 I/O146 (io), A9 I/O142 (io), A10 I/O140 (io), A11 I/O139 (io), A12 I/O136 (io), A13 I/O132 (io), A14 I/O129 (io), A15 I/O126 (io), A16 I/O122 (io), A18 I/O119/CLK2 (io), A19 I/O115 (io), A20 I/O114 (io), B1 I/O165 (io), B2 I/O163 (io), B4 I/O159 (io), B5 I/O157 (io), B6 I/O153 (io), B7 I/O150 (io), B8 I/O147 (io), B9 I/O143 (io), B10 I/O141 (io), B11 I/O137 (io), B12 I/O135 (io), B13 I/O131/CLK3 (io), B14 I/O128 (io), B15 I/O125 (io), B16 I/O121 (io), B17 I/O116 (io), C1 I/O169 (io), C2 I/O166 (io), C4 I/O162 (io), C6 I/O156 (io), C7 I/O152 (io), C8 I/O148 (io), C9 I/O144 (io), C11 I/O138 (io), C12 I/O134 (io), C13 I/O130 (io), C14 I/O127 (io), C15 I/O123 (io), C16 I/O120 (io), C17 I/O117 (io), C20 I/O111 (io), D1 I/O170 (io), D2 I/O167 (io), D5 I/O161 (io), D7 I/O155 (io), D9 I/O145 (io), D12 I/O133 (io), D14 I/O124 (io), D16 I/O118 (io), D18 I/O113 (io), D20 I/O109 (io), E1 I/O172 (io), E3 I/O171 (io), E4 I/O168 (io), E17 I/O112 (io), E18 I/O110 (io), E19 I/O108 (io), E20 I/O105 (io), F1 I/O176 (io), F2 I/O175 (io), F3 I/O173 (io), F18 I/O107 (io), F19 I/O104 (io), F20 I/O102 (io), G1 I/O179 (io), G2 I/O178 (io), G3 I/O177 (io), G4 I/O174 (io), G17 I/O106 (io), G18 I/O103 (io), G19 I/O101 (io), G20 I/O100 (io), H1 I/O182 (io), H2 I/O181 (io), H3 I/O180 (io), H18 I/O99 (io), H19 I/O98 (io), H20 I/O97 (io), J1 I/O186 (io), J2 I/O185 (io), J3 I/O184 (io), J4 I/O183 (io), J17 I/O96 (io), K1 I/O189 (io), K2 I/O187 (io), K3 I/O188 (io), K17 I/O95 (io), K18 I/O94 (io), K19 I/O93 (io), K20 I/O92 (io), L1 I/O190 (io), L2 I/O191 (io), L18 I/O90 (io), L19 I/O89 (io), L20 I/O91 (io), M2 I/O0/TOE (io), M3 I/O1 (io), M4 I/O2 (io), M17 I/O85 (io), M18 I/O86 (io), M19 I/O87 (io), M20 I/O88 (io), N1 I/O3 (io), N2 I/O4 (io), N3 I/O5 (io), N18 I/O82 (io), N19 I/O83 (io), N20 I/O84 (io), P1 I/O6 (io), P2 I/O7 (io), P3 I/O9 (io), P4 I/O12 (io), P17 I/O77 (io), P18 I/O80 (io), P20 I/O81 (io), R1 I/O8 (io), R2 I/O10 (io), R18 I/O76 (io), R19 I/O78 (io), R20 I/O79 (io), T1 I/O11 (io), T2 I/O13 (io), T3 I/O14 (io), T18 I/O74 (io), T19 I/O75 (io), U5 I/O21 (io), U7 I/O28 (io), U9 I/O37 (io), U12 I/O48 (io), U14 I/O58 (io), U16 I/O64 (io), U18 I/O71 (io), U19 I/O70 (io), U20 I/O73 (io), V1 I/O15 (io), V2 I/O16 (io), V3 I/O17 (io), V4 I/O20 (io), V5 I/O24 (io), V6 I/O27 (io), V7 I/O31 (io), V8 I/O34 (io), V9 I/O38 (io), V10 I/O42 (io), V12 I/O47 (io), V13 I/O51 (io), V14 I/O55 (io), V15 I/O59 (io), V16 I/O62 (io), V17 I/O65 (io), V18 I/O68 (io), V19 I/O69 (io), V20 I/O72 (io), W3 I/O19 (io), W5 I/O25 (io), W6 I/O29 (io), W7 I/O32 (io), W8 I/O35 (io), W9 I/O39 (io), W10 I/O41 (io), W11 I/O45 (io), W12 I/O46 (io), W13 I/O50 (io), W14 I/O53 (io), W15 I/O56 (io), W16 I/O60 (io), W18 I/O66 (io), Y1 I/O18 (io), Y3 I/O22 (io), Y4 I/O23 (io), Y5 I/O26 (io), Y6 I/O30 (io), Y7 I/O33 (io), Y8 I/O36 (io), Y9 I/O40 (io), Y10 I/O43 (io), Y11 I/O44 (io), Y13 I/O49 (io), Y14 I/O52 (io), Y15 I/O54 (io), Y16 I/O57 (io), Y17 I/O61 (io), Y18 I/O63 (io), Y19 I/O67 (io)
part B pins: C10 CLK0 (in), D10 CLK1 (in), J18 RESET (in), J20 TDO (out), L3 TMS (in), L4 TCK (in), M1 TDI (in), U11 GOE1 (in), V11 GOE0 (in)
part C pins: A1 GND (power), A17 NC, B3 NC, B18 NC, B19 NC, B20 NC, C3 NC, C5 NC, C18 NC, C19 NC, D3 NC, D4 GND (power), D6 VCC (power), D8 GND (power), D11 VCC (power), D13 GND (power), D15 VCC (power), D17 GND (power), D19 NC, E2 NC, F4 VCC (power), F17 VCC (power), H4 GND (power), H17 GND (power), J9 GND (power), J10 GND (power), J11 GND (power), J12 GND (power), J19 VCCIO (power), K4 VCC (power), K9 GND (power), K10 GND (power), K11 GND (power), K12 GND (power), L9 GND (power), L10 GND (power), L11 GND (power), L12 GND (power), L17 VCC (power), M9 GND (power), M10 GND (power), M11 GND (power), M12 GND (power), N4 GND (power), N17 GND (power), P19 NC, R3 NC, R4 VCC (power), R17 VCC (power), T4 NC, T17 NC, T20 NC, U1 NC, U2 NC, U3 NC, U4 GND (power), U6 VCC (power), U8 GND (power), U10 VCC (power), U13 GND (power), U15 VCC (power), U17 GND (power), W1 NC, W2 NC, W4 NC, W17 NC, W19 NC, W20 NC, Y2 NC, Y12 NC, Y20 NC

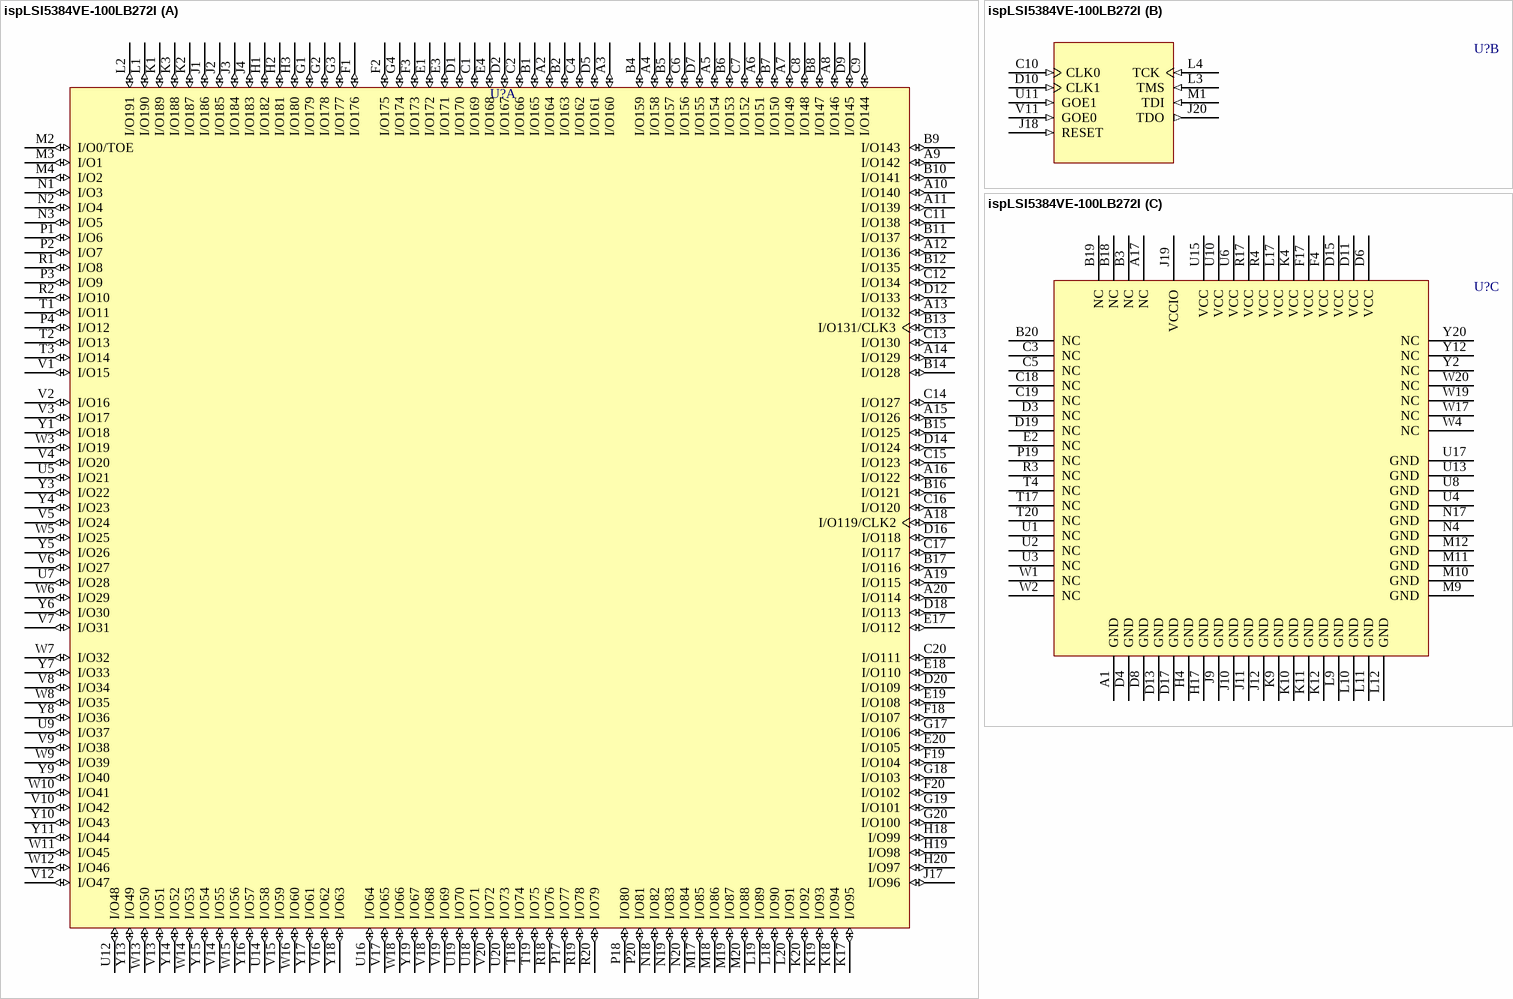
[diagram p17: symbol ispLSI5384VE-100LB272I]

## ispLSI5384VE-100LB272I
designator U?
ispLSI 5384VE SuperWIDE High Density PLD with 144 User I/Os, 10 ns, 3.3 V, Industrial Grade; Published: 17-Sep-2003; LatestRevisionDate: 13-Apr-2006; LatestRevisionNote: IPC-7351 Footprint Added.; DatasheetVersion: 5384ve_05, Jan-2002; PackageVersion: pkg_32, Aug-2005; PackageReference: BGA272; Publisher: Altium Limited; PackageDescription: 272-Ball Ball Grid Array (BGA272); ComponentLink1Description: Manufacturer Link; ComponentLink1URL: http://www.latticesemi.com/products/cpld/5000/5000VE/index.cfm; ComponentLink2Description: Datasheet; ComponentLink2URL: http://www.latticesemi.com/account/_download.cfm?AMID=816; ComponentLink3Description: Lattice Login; ComponentLink3URL: http://www.latticesemi.com/account/login.cfm
footprint BGA272 (BGA, 272-Leads, Body 27x27mm, Pitch 1.27mm)
3D model 5384VE-BGA272 (272-Ball Ball Grid Array (BGA272))
part A pins: A2 I/O164 (io), A3 I/O160 (io), A4 I/O158 (io), A5 I/O154 (io), A6 I/O151 (io), A7 I/O149 (io), A8 I/O146 (io), A9 I/O142 (io), A10 I/O140 (io), A11 I/O139 (io), A12 I/O136 (io), A13 I/O132 (io), A14 I/O129 (io), A15 I/O126 (io), A16 I/O122 (io), A18 I/O119/CLK2 (io), A19 I/O115 (io), A20 I/O114 (io), B1 I/O165 (io), B2 I/O163 (io), B4 I/O159 (io), B5 I/O157 (io), B6 I/O153 (io), B7 I/O150 (io), B8 I/O147 (io), B9 I/O143 (io), B10 I/O141 (io), B11 I/O137 (io), B12 I/O135 (io), B13 I/O131/CLK3 (io), B14 I/O128 (io), B15 I/O125 (io), B16 I/O121 (io), B17 I/O116 (io), C1 I/O169 (io), C2 I/O166 (io), C4 I/O162 (io), C6 I/O156 (io), C7 I/O152 (io), C8 I/O148 (io), C9 I/O144 (io), C11 I/O138 (io), C12 I/O134 (io), C13 I/O130 (io), C14 I/O127 (io), C15 I/O123 (io), C16 I/O120 (io), C17 I/O117 (io), C20 I/O111 (io), D1 I/O170 (io), D2 I/O167 (io), D5 I/O161 (io), D7 I/O155 (io), D9 I/O145 (io), D12 I/O133 (io), D14 I/O124 (io), D16 I/O118 (io), D18 I/O113 (io), D20 I/O109 (io), E1 I/O172 (io), E3 I/O171 (io), E4 I/O168 (io), E17 I/O112 (io), E18 I/O110 (io), E19 I/O108 (io), E20 I/O105 (io), F1 I/O176 (io), F2 I/O175 (io), F3 I/O173 (io), F18 I/O107 (io), F19 I/O104 (io), F20 I/O102 (io), G1 I/O179 (io), G2 I/O178 (io), G3 I/O177 (io), G4 I/O174 (io), G17 I/O106 (io), G18 I/O103 (io), G19 I/O101 (io), G20 I/O100 (io), H1 I/O182 (io), H2 I/O181 (io), H3 I/O180 (io), H18 I/O99 (io), H19 I/O98 (io), H20 I/O97 (io), J1 I/O186 (io), J2 I/O185 (io), J3 I/O184 (io), J4 I/O183 (io), J17 I/O96 (io), K1 I/O189 (io), K2 I/O187 (io), K3 I/O188 (io), K17 I/O95 (io), K18 I/O94 (io), K19 I/O93 (io), K20 I/O92 (io), L1 I/O190 (io), L2 I/O191 (io), L18 I/O90 (io), L19 I/O89 (io), L20 I/O91 (io), M2 I/O0/TOE (io), M3 I/O1 (io), M4 I/O2 (io), M17 I/O85 (io), M18 I/O86 (io), M19 I/O87 (io), M20 I/O88 (io), N1 I/O3 (io), N2 I/O4 (io), N3 I/O5 (io), N18 I/O82 (io), N19 I/O83 (io), N20 I/O84 (io), P1 I/O6 (io), P2 I/O7 (io), P3 I/O9 (io), P4 I/O12 (io), P17 I/O77 (io), P18 I/O80 (io), P20 I/O81 (io), R1 I/O8 (io), R2 I/O10 (io), R18 I/O76 (io), R19 I/O78 (io), R20 I/O79 (io), T1 I/O11 (io), T2 I/O13 (io), T3 I/O14 (io), T18 I/O74 (io), T19 I/O75 (io), U5 I/O21 (io), U7 I/O28 (io), U9 I/O37 (io), U12 I/O48 (io), U14 I/O58 (io), U16 I/O64 (io), U18 I/O71 (io), U19 I/O70 (io), U20 I/O73 (io), V1 I/O15 (io), V2 I/O16 (io), V3 I/O17 (io), V4 I/O20 (io), V5 I/O24 (io), V6 I/O27 (io), V7 I/O31 (io), V8 I/O34 (io), V9 I/O38 (io), V10 I/O42 (io), V12 I/O47 (io), V13 I/O51 (io), V14 I/O55 (io), V15 I/O59 (io), V16 I/O62 (io), V17 I/O65 (io), V18 I/O68 (io), V19 I/O69 (io), V20 I/O72 (io), W3 I/O19 (io), W5 I/O25 (io), W6 I/O29 (io), W7 I/O32 (io), W8 I/O35 (io), W9 I/O39 (io), W10 I/O41 (io), W11 I/O45 (io), W12 I/O46 (io), W13 I/O50 (io), W14 I/O53 (io), W15 I/O56 (io), W16 I/O60 (io), W18 I/O66 (io), Y1 I/O18 (io), Y3 I/O22 (io), Y4 I/O23 (io), Y5 I/O26 (io), Y6 I/O30 (io), Y7 I/O33 (io), Y8 I/O36 (io), Y9 I/O40 (io), Y10 I/O43 (io), Y11 I/O44 (io), Y13 I/O49 (io), Y14 I/O52 (io), Y15 I/O54 (io), Y16 I/O57 (io), Y17 I/O61 (io), Y18 I/O63 (io), Y19 I/O67 (io)
part B pins: C10 CLK0 (in), D10 CLK1 (in), J18 RESET (in), J20 TDO (out), L3 TMS (in), L4 TCK (in), M1 TDI (in), U11 GOE1 (in), V11 GOE0 (in)
part C pins: A1 GND (power), A17 NC, B3 NC, B18 NC, B19 NC, B20 NC, C3 NC, C5 NC, C18 NC, C19 NC, D3 NC, D4 GND (power), D6 VCC (power), D8 GND (power), D11 VCC (power), D13 GND (power), D15 VCC (power), D17 GND (power), D19 NC, E2 NC, F4 VCC (power), F17 VCC (power), H4 GND (power), H17 GND (power), J9 GND (power), J10 GND (power), J11 GND (power), J12 GND (power), J19 VCCIO (power), K4 VCC (power), K9 GND (power), K10 GND (power), K11 GND (power), K12 GND (power), L9 GND (power), L10 GND (power), L11 GND (power), L12 GND (power), L17 VCC (power), M9 GND (power), M10 GND (power), M11 GND (power), M12 GND (power), N4 GND (power), N17 GND (power), P19 NC, R3 NC, R4 VCC (power), R17 VCC (power), T4 NC, T17 NC, T20 NC, U1 NC, U2 NC, U3 NC, U4 GND (power), U6 VCC (power), U8 GND (power), U10 VCC (power), U13 GND (power), U15 VCC (power), U17 GND (power), W1 NC, W2 NC, W4 NC, W17 NC, W19 NC, W20 NC, Y2 NC, Y12 NC, Y20 NC

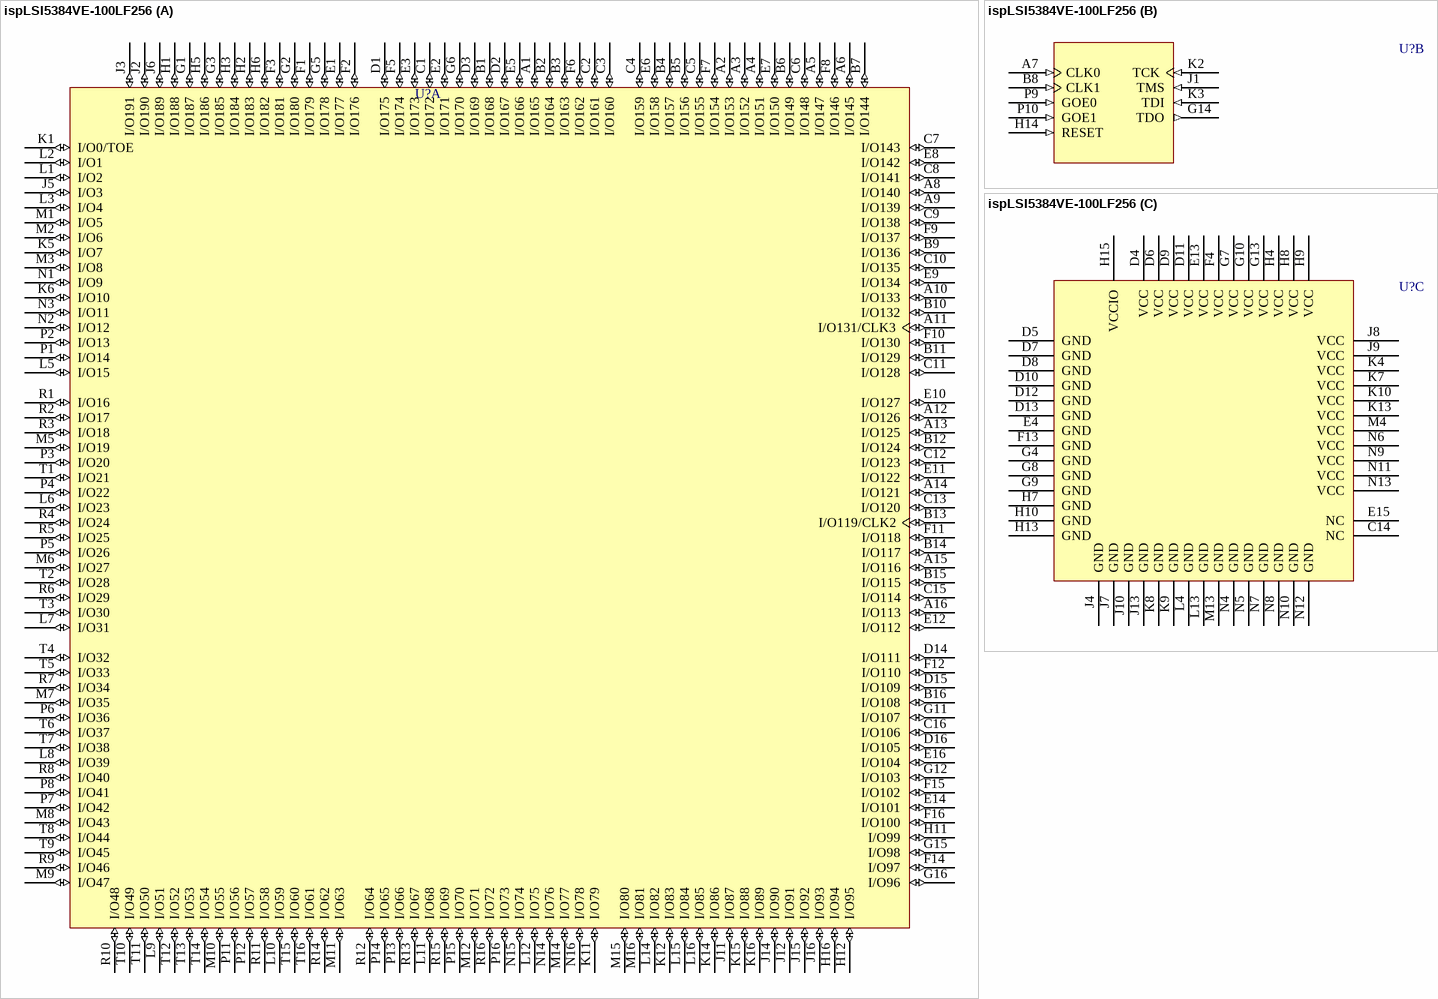
[diagram p18: symbol ispLSI5384VE-100LF256]

## ispLSI5384VE-100LF256
designator U?
ispLSI 5384VE SuperWIDE High Density PLD with 192 User I/Os, 10 ns, 3.3 V, Commercial Grade; Published: 17-Sep-2003; LatestRevisionDate: 13-Apr-2006; LatestRevisionNote: IPC-7351 Footprint Added.; DatasheetVersion: 5384ve_05, Jan-2002; PackageVersion: pkg_32, Aug-2005; PackageReference: fpBGA256; Publisher: Altium Limited; PackageDescription: 256-Ball Fine Pitch Ball Grid Array (fpBGA256); Code_IPC: BGA100P16X16-256; ComponentLink1Description: Manufacturer Link; ComponentLink1URL: http://www.latticesemi.com/products/cpld/5000/5000VE/index.cfm; ComponentLink2Description: Datasheet; ComponentLink2URL: http://www.latticesemi.com/account/_download.cfm?AMID=816; ComponentLink3Description: Lattice Login; ComponentLink3URL: http://www.latticesemi.com/account/login.cfm
footprint fpBGA256 (BGA, 256-Leads, Body 17x17mm, Pitch 1mm)
3D model 5384VE-fpBGA256 (256-Ball Fine Pitch Ball Grid Array (fpBGA256))
part A pins: A1 I/O165 (io), A2 I/O153 (io), A3 I/O152 (io), A4 I/O151 (io), A5 I/O147 (io), A6 I/O145 (io), A8 I/O140 (io), A9 I/O139 (io), A10 I/O133 (io), A11 I/O131/CLK3 (io), A12 I/O126 (io), A13 I/O125 (io), A14 I/O121 (io), A15 I/O116 (io), A16 I/O113 (io), B1 I/O168 (io), B2 I/O164 (io), B3 I/O163 (io), B4 I/O157 (io), B5 I/O156 (io), B6 I/O149 (io), B7 I/O144 (io), B9 I/O136 (io), B10 I/O132 (io), B11 I/O129 (io), B12 I/O124 (io), B13 I/O119/CLK2 (io), B14 I/O117 (io), B15 I/O115 (io), B16 I/O108 (io), C1 I/O172 (io), C2 I/O161 (io), C3 I/O160 (io), C4 I/O159 (io), C5 I/O155 (io), C6 I/O148 (io), C7 I/O143 (io), C8 I/O141 (io), C9 I/O138 (io), C10 I/O135 (io), C11 I/O128 (io), C12 I/O123 (io), C13 I/O120 (io), C15 I/O114 (io), C16 I/O106 (io), D1 I/O175 (io), D2 I/O167 (io), D3 I/O169 (io), D14 I/O111 (io), D15 I/O109 (io), D16 I/O105 (io), E1 I/O177 (io), E2 I/O171 (io), E3 I/O173 (io), E5 I/O166 (io), E6 I/O158 (io), E7 I/O150 (io), E8 I/O142 (io), E9 I/O134 (io), E10 I/O127 (io), E11 I/O122 (io), E12 I/O112 (io), E14 I/O101 (io), E16 I/O104 (io), F1 I/O179 (io), F2 I/O176 (io), F3 I/O181 (io), F5 I/O174 (io), F6 I/O162 (io), F7 I/O154 (io), F8 I/O146 (io), F9 I/O137 (io), F10 I/O130 (io), F11 I/O118 (io), F12 I/O110 (io), F14 I/O97 (io), F15 I/O102 (io), F16 I/O100 (io), G1 I/O187 (io), G2 I/O180 (io), G3 I/O185 (io), G5 I/O178 (io), G6 I/O170 (io), G11 I/O107 (io), G12 I/O103 (io), G15 I/O98 (io), G16 I/O96 (io), H1 I/O188 (io), H2 I/O183 (io), H3 I/O184 (io), H5 I/O186 (io), H6 I/O182 (io), H11 I/O99 (io), H12 I/O95 (io), H16 I/O94 (io), J2 I/O190 (io), J3 I/O191 (io), J5 I/O3 (io), J6 I/O189 (io), J11 I/O87 (io), J12 I/O91 (io), J14 I/O90 (io), J15 I/O92 (io), J16 I/O93 (io), K1 I/O0/TOE (io), K5 I/O7 (io), K6 I/O10 (io), K11 I/O79 (io), K12 I/O83 (io), K14 I/O86 (io), K15 I/O88 (io), K16 I/O89 (io), L1 I/O2 (io), L2 I/O1 (io), L3 I/O4 (io), L5 I/O15 (io), L6 I/O23 (io), L7 I/O31 (io), L8 I/O39 (io), L9 I/O51 (io), L10 I/O59 (io), L11 I/O68 (io), L12 I/O75 (io), L14 I/O82 (io), L15 I/O84 (io), L16 I/O85 (io), M1 I/O5 (io), M2 I/O6 (io), M3 I/O8 (io), M5 I/O19 (io), M6 I/O27 (io), M7 I/O35 (io), M8 I/O43 (io), M9 I/O47 (io), M10 I/O55 (io), M11 I/O63 (io), M12 I/O71 (io), M14 I/O77 (io), M15 I/O80 (io), M16 I/O81 (io), N1 I/O9 (io), N2 I/O12 (io), N3 I/O11 (io), N14 I/O76 (io), N15 I/O74 (io), N16 I/O78 (io), P1 I/O14 (io), P2 I/O13 (io), P3 I/O20 (io), P4 I/O22 (io), P5 I/O26 (io), P6 I/O36 (io), P7 I/O42 (io), P8 I/O41 (io), P11 I/O56 (io), P12 I/O57 (io), P13 I/O66 (io), P14 I/O65 (io), P15 I/O70 (io), P16 I/O73 (io), R1 I/O16 (io), R2 I/O17 (io), R3 I/O18 (io), R4 I/O24 (io), R5 I/O25 (io), R6 I/O29 (io), R7 I/O34 (io), R8 I/O40 (io), R9 I/O46 (io), R10 I/O48 (io), R11 I/O58 (io), R12 I/O64 (io), R13 I/O67 (io), R14 I/O62 (io), R15 I/O69 (io), R16 I/O72 (io), T1 I/O21 (io), T2 I/O28 (io), T3 I/O30 (io), T4 I/O32 (io), T5 I/O33 (io), T6 I/O37 (io), T7 I/O38 (io), T8 I/O44 (io), T9 I/O45 (io), T10 I/O49 (io), T11 I/O50 (io), T12 I/O52 (io), T13 I/O53 (io), T14 I/O54 (io), T15 I/O60 (io), T16 I/O61 (io)
part B pins: A7 CLK0 (in), B8 CLK1 (in), G14 TDO (out), H14 RESET (in), J1 TMS (in), K2 TCK (in), K3 TDI (in), P9 GOE0 (in), P10 GOE1 (in)
part C pins: C14 NC, D4 VCC (power), D5 GND (power), D6 VCC (power), D7 GND (power), D8 GND (power), D9 VCC (power), D10 GND (power), D11 VCC (power), D12 GND (power), D13 GND (power), E4 GND (power), E13 VCC (power), E15 NC, F4 VCC (power), F13 GND (power), G4 GND (power), G7 VCC (power), G8 GND (power), G9 GND (power), G10 VCC (power), G13 VCC (power), H4 VCC (power), H7 GND (power), H8 VCC (power), H9 VCC (power), H10 GND (power), H13 GND (power), H15 VCCIO (power), J4 GND (power), J7 GND (power), J8 VCC (power), J9 VCC (power), J10 GND (power), J13 GND (power), K4 VCC (power), K7 VCC (power), K8 GND (power), K9 GND (power), K10 VCC (power), K13 VCC (power), L4 GND (power), L13 GND (power), M4 VCC (power), M13 GND (power), N4 GND (power), N5 GND (power), N6 VCC (power), N7 GND (power), N8 GND (power), N9 VCC (power), N10 GND (power), N11 VCC (power), N12 GND (power), N13 VCC (power)

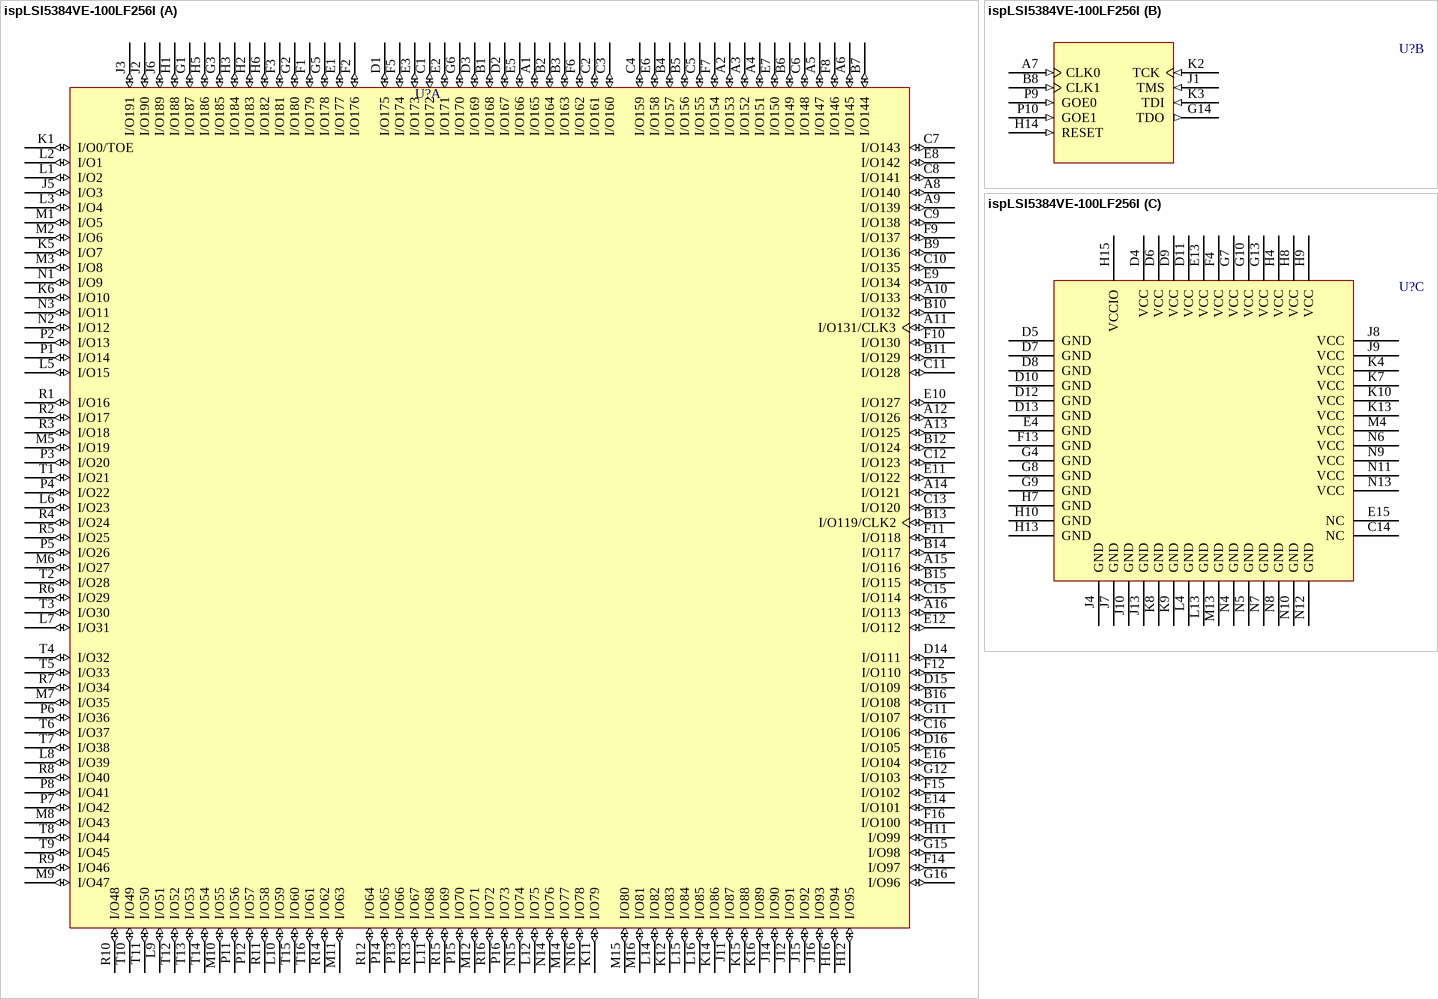
[diagram p19: symbol ispLSI5384VE-100LF256I]

## ispLSI5384VE-100LF256I
designator U?
ispLSI 5384VE SuperWIDE High Density PLD with 192 User I/Os, 10 ns, 3.3 V, Industrial Grade; Published: 17-Sep-2003; LatestRevisionDate: 13-Apr-2006; LatestRevisionNote: IPC-7351 Footprint Added.; DatasheetVersion: 5384ve_05, Jan-2002; PackageVersion: pkg_32, Aug-2005; PackageReference: fpBGA256; Publisher: Altium Limited; PackageDescription: 256-Ball Fine Pitch Ball Grid Array (fpBGA256); Code_IPC: BGA100P16X16-256; ComponentLink1Description: Manufacturer Link; ComponentLink1URL: http://www.latticesemi.com/products/cpld/5000/5000VE/index.cfm; ComponentLink2Description: Datasheet; ComponentLink2URL: http://www.latticesemi.com/account/_download.cfm?AMID=816; ComponentLink3Description: Lattice Login; ComponentLink3URL: http://www.latticesemi.com/account/login.cfm
footprint fpBGA256 (BGA, 256-Leads, Body 17x17mm, Pitch 1mm)
3D model 5384VE-fpBGA256 (256-Ball Fine Pitch Ball Grid Array (fpBGA256))
part A pins: A1 I/O165 (io), A2 I/O153 (io), A3 I/O152 (io), A4 I/O151 (io), A5 I/O147 (io), A6 I/O145 (io), A8 I/O140 (io), A9 I/O139 (io), A10 I/O133 (io), A11 I/O131/CLK3 (io), A12 I/O126 (io), A13 I/O125 (io), A14 I/O121 (io), A15 I/O116 (io), A16 I/O113 (io), B1 I/O168 (io), B2 I/O164 (io), B3 I/O163 (io), B4 I/O157 (io), B5 I/O156 (io), B6 I/O149 (io), B7 I/O144 (io), B9 I/O136 (io), B10 I/O132 (io), B11 I/O129 (io), B12 I/O124 (io), B13 I/O119/CLK2 (io), B14 I/O117 (io), B15 I/O115 (io), B16 I/O108 (io), C1 I/O172 (io), C2 I/O161 (io), C3 I/O160 (io), C4 I/O159 (io), C5 I/O155 (io), C6 I/O148 (io), C7 I/O143 (io), C8 I/O141 (io), C9 I/O138 (io), C10 I/O135 (io), C11 I/O128 (io), C12 I/O123 (io), C13 I/O120 (io), C15 I/O114 (io), C16 I/O106 (io), D1 I/O175 (io), D2 I/O167 (io), D3 I/O169 (io), D14 I/O111 (io), D15 I/O109 (io), D16 I/O105 (io), E1 I/O177 (io), E2 I/O171 (io), E3 I/O173 (io), E5 I/O166 (io), E6 I/O158 (io), E7 I/O150 (io), E8 I/O142 (io), E9 I/O134 (io), E10 I/O127 (io), E11 I/O122 (io), E12 I/O112 (io), E14 I/O101 (io), E16 I/O104 (io), F1 I/O179 (io), F2 I/O176 (io), F3 I/O181 (io), F5 I/O174 (io), F6 I/O162 (io), F7 I/O154 (io), F8 I/O146 (io), F9 I/O137 (io), F10 I/O130 (io), F11 I/O118 (io), F12 I/O110 (io), F14 I/O97 (io), F15 I/O102 (io), F16 I/O100 (io), G1 I/O187 (io), G2 I/O180 (io), G3 I/O185 (io), G5 I/O178 (io), G6 I/O170 (io), G11 I/O107 (io), G12 I/O103 (io), G15 I/O98 (io), G16 I/O96 (io), H1 I/O188 (io), H2 I/O183 (io), H3 I/O184 (io), H5 I/O186 (io), H6 I/O182 (io), H11 I/O99 (io), H12 I/O95 (io), H16 I/O94 (io), J2 I/O190 (io), J3 I/O191 (io), J5 I/O3 (io), J6 I/O189 (io), J11 I/O87 (io), J12 I/O91 (io), J14 I/O90 (io), J15 I/O92 (io), J16 I/O93 (io), K1 I/O0/TOE (io), K5 I/O7 (io), K6 I/O10 (io), K11 I/O79 (io), K12 I/O83 (io), K14 I/O86 (io), K15 I/O88 (io), K16 I/O89 (io), L1 I/O2 (io), L2 I/O1 (io), L3 I/O4 (io), L5 I/O15 (io), L6 I/O23 (io), L7 I/O31 (io), L8 I/O39 (io), L9 I/O51 (io), L10 I/O59 (io), L11 I/O68 (io), L12 I/O75 (io), L14 I/O82 (io), L15 I/O84 (io), L16 I/O85 (io), M1 I/O5 (io), M2 I/O6 (io), M3 I/O8 (io), M5 I/O19 (io), M6 I/O27 (io), M7 I/O35 (io), M8 I/O43 (io), M9 I/O47 (io), M10 I/O55 (io), M11 I/O63 (io), M12 I/O71 (io), M14 I/O77 (io), M15 I/O80 (io), M16 I/O81 (io), N1 I/O9 (io), N2 I/O12 (io), N3 I/O11 (io), N14 I/O76 (io), N15 I/O74 (io), N16 I/O78 (io), P1 I/O14 (io), P2 I/O13 (io), P3 I/O20 (io), P4 I/O22 (io), P5 I/O26 (io), P6 I/O36 (io), P7 I/O42 (io), P8 I/O41 (io), P11 I/O56 (io), P12 I/O57 (io), P13 I/O66 (io), P14 I/O65 (io), P15 I/O70 (io), P16 I/O73 (io), R1 I/O16 (io), R2 I/O17 (io), R3 I/O18 (io), R4 I/O24 (io), R5 I/O25 (io), R6 I/O29 (io), R7 I/O34 (io), R8 I/O40 (io), R9 I/O46 (io), R10 I/O48 (io), R11 I/O58 (io), R12 I/O64 (io), R13 I/O67 (io), R14 I/O62 (io), R15 I/O69 (io), R16 I/O72 (io), T1 I/O21 (io), T2 I/O28 (io), T3 I/O30 (io), T4 I/O32 (io), T5 I/O33 (io), T6 I/O37 (io), T7 I/O38 (io), T8 I/O44 (io), T9 I/O45 (io), T10 I/O49 (io), T11 I/O50 (io), T12 I/O52 (io), T13 I/O53 (io), T14 I/O54 (io), T15 I/O60 (io), T16 I/O61 (io)
part B pins: A7 CLK0 (in), B8 CLK1 (in), G14 TDO (out), H14 RESET (in), J1 TMS (in), K2 TCK (in), K3 TDI (in), P9 GOE0 (in), P10 GOE1 (in)
part C pins: C14 NC, D4 VCC (power), D5 GND (power), D6 VCC (power), D7 GND (power), D8 GND (power), D9 VCC (power), D10 GND (power), D11 VCC (power), D12 GND (power), D13 GND (power), E4 GND (power), E13 VCC (power), E15 NC, F4 VCC (power), F13 GND (power), G4 GND (power), G7 VCC (power), G8 GND (power), G9 GND (power), G10 VCC (power), G13 VCC (power), H4 VCC (power), H7 GND (power), H8 VCC (power), H9 VCC (power), H10 GND (power), H13 GND (power), H15 VCCIO (power), J4 GND (power), J7 GND (power), J8 VCC (power), J9 VCC (power), J10 GND (power), J13 GND (power), K4 VCC (power), K7 VCC (power), K8 GND (power), K9 GND (power), K10 VCC (power), K13 VCC (power), L4 GND (power), L13 GND (power), M4 VCC (power), M13 GND (power), N4 GND (power), N5 GND (power), N6 VCC (power), N7 GND (power), N8 GND (power), N9 VCC (power), N10 GND (power), N11 VCC (power), N12 GND (power), N13 VCC (power)

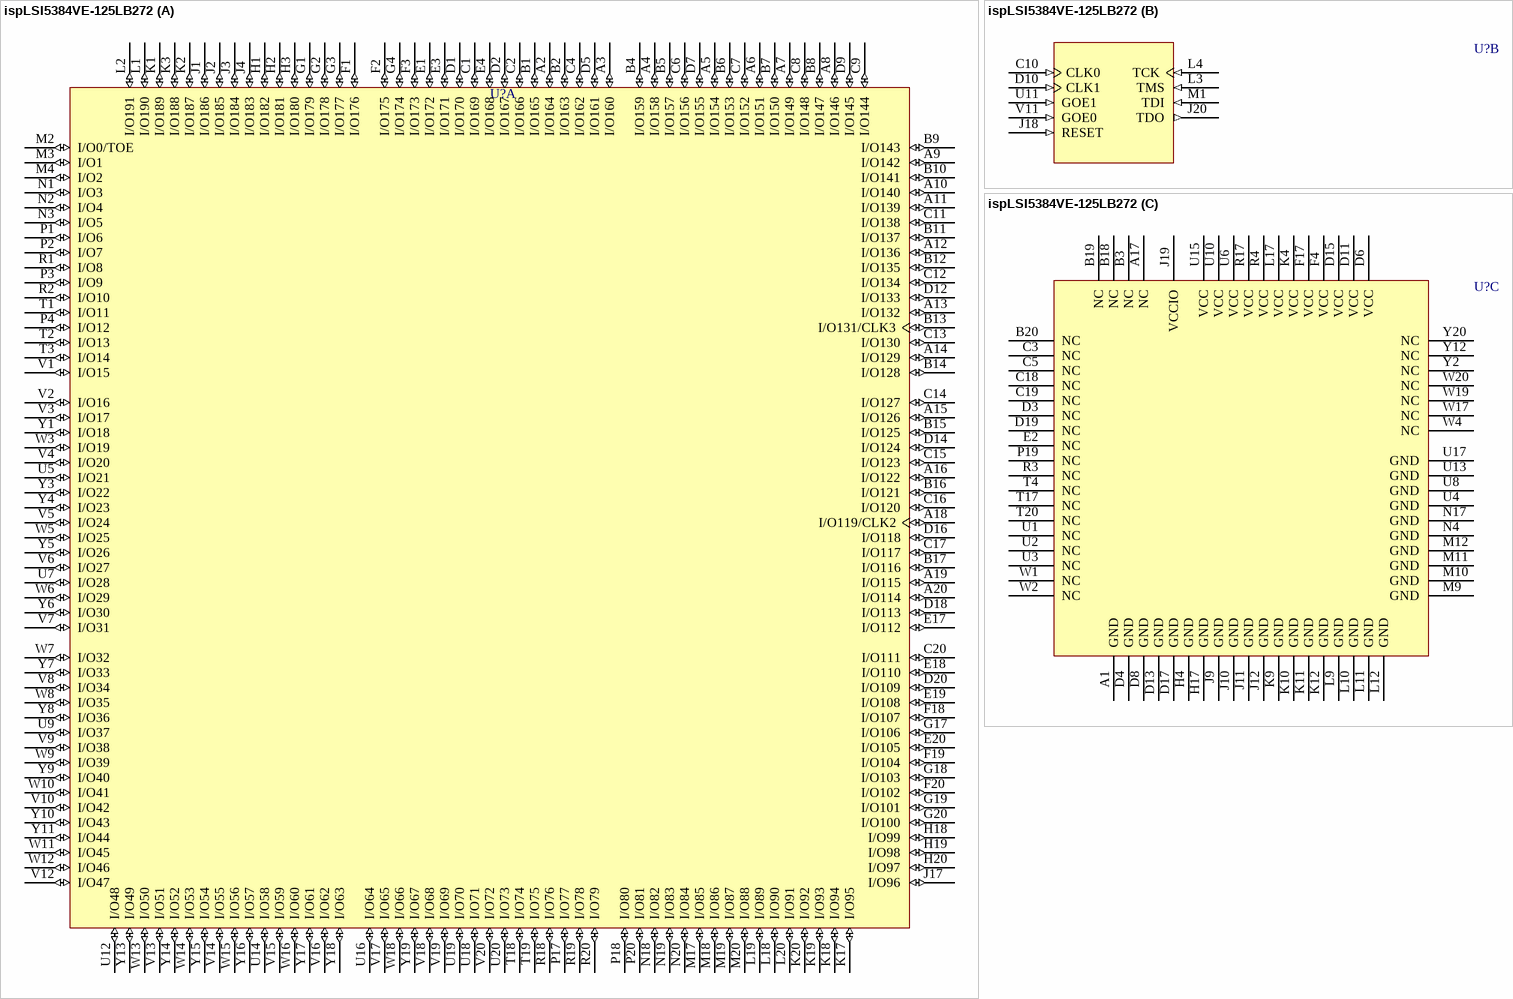
[diagram p20: symbol ispLSI5384VE-125LB272]